# Altium schematic symbol library ParsaLibrary.SchLib: 419 symbols (part 1 of 3)
Pins are listed as number, name and electrical type; pins without a type are passive.

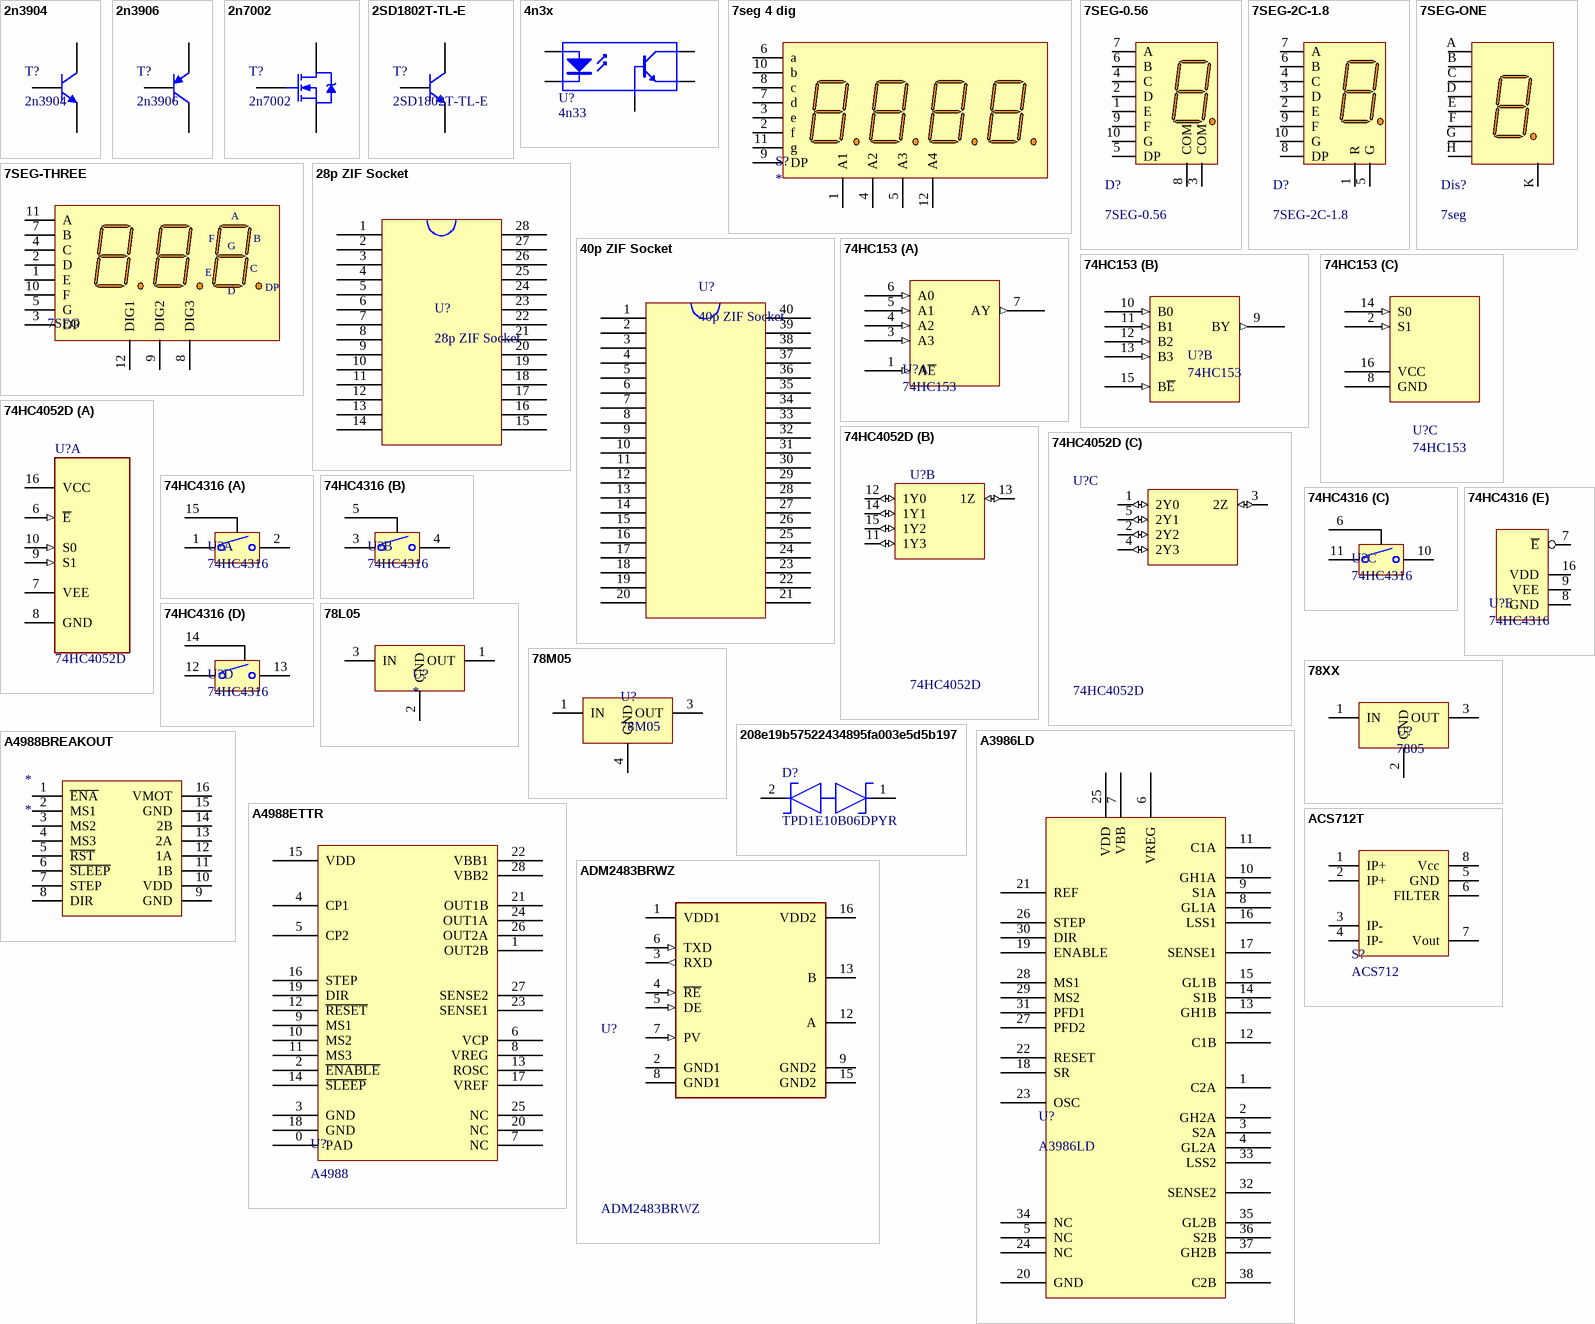
[diagram p0: symbols 2n3904 to ADM2483BRWZ]

## 2n3904
designator T?
Mark: 1A
footprint SOT-23-3 (SOT-23 3PIN)
pins: 1 C, 2 E, 3 B

## 2n3906
designator T?
Mark: 2A
footprint SOT-23-3 (SOT-23 3PIN)
pins: 1 C, 2 E, 3 B

## 2n7002
designator T?
footprint SOT-23-3 (SOT-23 3PIN)
pins: 1 D, 2 S, 3 G

## 2SD1802T-TL-E
designator T?
High-Current Switching  Applications; MANUFACTOR: SANYO Semiconductors
footprint TO-252
pins: 1 B, 3 E, 4 C

## 4n3x
designator U?, comment 4n33
Optocoupler, Photodarlington Output, High Gain, / With Base Connection
footprint SOP-6
pins: 1 A "Anode", 2 K "Cathode", 4 E "Emitter", 5 C "Collector", 6 B "Base"

## 7seg 4 dig
designator S?
footprint 7seg 4dig
pins: 1 A1 "Anode", 2 f "Cathode", 3 e "Cathode", 4 A2 "Anode", 5 A3 "Anode", 6 a "Cathode", 7 d "Cathode", 8 c "Cathode", 9 DP "Cathode", 10 b "Cathode", 11 g "Cathode", 12 A4 "Anode"

## 7SEG-0.56
designator D?
Desgner: Parsa Malekpour; blog: p-malekpour.blogfa.com; Email: malekpour.parsa@Gmail.com
footprint 7SEG-0.56-1
pins: 1 E, 2 D, 3 COM, 4 C, 5 DP, 6 B, 7 A, 8 COM, 9 F, 10 G

## 7SEG-2C-1.8
designator D?
Desgner: Parsa Malekpour; blog: p-malekpour.blogfa.com; Email: malekpour.parsa@Gmail.com
footprint 7SEG-1.8-SINGLE
pins: 1 R, 2 E, 3 D, 4 C, 5 G, 6 B, 7 A, 8 DP, 9 F, 10 G

## 7SEG-ONE
designator Dis?, comment 7seg
Desgner: Parsa Malekpour; blog: p-malekpour.blogfa.com; Email: malekpour.parsa@Gmail.com
footprint 7SEG-BIG-SINGLE (big 7segment)
pins: A, B, C, D, E, F, G, H, K

## 7SEG-THREE
designator 7SEG, comment TRIPLE  (value not drawn)
CL5361
footprint 7SEG-THREE
pins: 1 E "Cathode", 2 D "Cathode", 3 DP "Cathode", 4 C "Cathode", 5 G "Cathode", 7 B "Cathode", 8 DIG3 "Anode", 9 DIG2 "Anode", 10 F "Cathode", 11 A "Cathode", 12 DIG1 "Anode"

## 28p ZIF Socket
designator U?
40 Pin Zif Socket
footprint Dip40 (40pin Dip IC)
pins: 1, 2, 3, 4, 5, 6, 7, 8, 9, 10, 11, 12, 13, 14, 15, 16, 17, 18, 19, 20, 21, 22, 23, 24, 25, 26, 27, 28

## 40p ZIF Socket
designator U?
40 Pin Zif Socket
footprint Dip40 (40pin Dip IC)
pins: 1, 2, 3, 4, 5, 6, 7, 8, 9, 10, 11, 12, 13, 14, 15, 16, 17, 18, 19, 20, 21, 22, 23, 24, 25, 26, 27, 28, 29, 30, 31, 32, 33, 34, 35, 36, 37, 38, 39, 40

## 74HC153
designator U?
Dual 4-input multiplexer
footprint SOIC-16N
part A pins: 1 A~{E} (in), 3 A3 (in), 4 A2 (in), 5 A1 (in), 6 A0 (in), 7 AY (out)
part B pins: 9 BY (out), 10 B0 (in), 11 B1 (in), 12 B2 (in), 13 B3 (in), 15 B~{E} (in)
part C pins: 2 S1 (in), 8 GND, 14 S0 (in), 16 VCC

## 74HC4052D
designator U?
Dual 4-channel analog multiplexer/demultiplexer; MP: 74HC4052D/AUJ; MF: {'manufacturer': u'NXP USA'}; Availability: Unavailable; Price: None; Value: *; Package: None
footprint SOIC-16N
part A pins: 6 ~{E} (in), 7 VEE (power), 8 GND, 9 S1 (in), 10 S0 (in), 16 VCC (power)
part B pins: 11 1Y3 (io), 12 1Y0 (io), 13 1Z (io), 14 1Y1 (io), 15 1Y2 (io)
part C pins: 1 2Y0 (io), 2 2Y2 (io), 3 2Z (io), 4 2Y3 (io), 5 2Y1 (io)

## 74HC4316
designator U?
footprint SOIC-16N
part A pins: 1, 2, 15 1S
part B pins: 3 2Y, 4 2Z, 5 2S
part C pins: 6 3S, 10 3Z, 11 3Y
part D pins: 12 4Y, 13 4Z, 14 4S
part E pins: 7 ~{E}, 8 GND, 9 VEE, 16 VDD

## 78L05
designator U?
footprint TO-92
pins: 1 OUT, 2 GND, 3 IN

## 78M05
designator U?
footprint TO-252
pins: 1 IN, 3 OUT, 4 GND

## 78XX
designator U?, comment 7805
footprint TO-220
pins: 1 IN, 2 GND, 3 OUT

## 208e19b57522434895fa003e5d5b197
designator D?, comment TPD1E10B06DPYR
TVS DIODE 5.5V 14V 2X1SON; Leakage Current: 100nA; Min Breakdown Voltage: 6V; Number of Channels: 1; ESD Protection: Yes; Power Line Protection: No; Test Current: 1mA; Interface: GPIO; Element Configuration: Single; Peak Pulse Current: 5A; Direction: Bidirectional; Peak Pulse Power: 90W; Capacitance: 12pF; Composition: Zener; Packaging: Tape and Reel; Number of Pins: 2; Breakdown Voltage: 6V; Radiation Hardening: No; Min Operating Temperature: -40°C; Contact Plating: Gold; Lead Free: Lead Free; Height: 0.35mm; REACH SVHC: No SVHC; Case/Package: 0402; Max Operating Temperature: 125°C; Width: 0.7mm; Clamping Voltage: 14V; Package Quantity: 1; Max Reverse Leakage Current: 100nA; Working Voltage: 5.5V; Length: 1.1mm; Number of Bidirectional Channels: 1; Reverse Standoff Voltage: 5.5V
footprint FP-DPY0002A-MFG
pins: 1, 2

## A3986LD
designator U?
Dual Full-Bridge MOSFET Driver with Microstepping Translator
footprint tssop-38 (0.5mm Pitch)
pins: 1 C2A, 2 GH2A, 3 S2A, 4 GL2A, 5 NC, 6 VREG, 7 VBB, 8 GL1A, 9 S1A, 10 GH1A, 11 C1A, 12 C1B, 13 GH1B, 14 S1B, 15 GL1B, 16 LSS1, 17 SENSE1, 18 SR, 19 ENABLE, 20 GND, 21 REF, 22 RESET, 23 OSC, 24 NC, 25 VDD, 26 STEP, 27 PFD2, 28 MS1, 29 MS2, 30 DIR, 31 PFD1, 32 SENSE2, 33 LSS2, 34 NC, 35 GL2B, 36 S2B, 37 GH2B, 38 C2B

## A4988BREAKOUT
designator *
footprint A4988BREAKOUT
pins: 1 ~{ENA}, 2 MS1, 3 MS2, 4 MS3, 5 ~{RST}, 6 ~{SLEEP}, 7 STEP, 8 DIR, 9 GND, 10 VDD, 11 1B, 12 1A, 13 2A, 14 2B, 15 GND, 16 VMOT

## A4988ETTR
designator U?, comment A4988
DMOS Microstepping Driver with Translator  And Overcurrent Protection
footprint QFN-28
pins: 0 PAD, 1 OUT2B, 2 ~{ENABLE}, 3 GND, 4 CP1, 5 CP2, 6 VCP, 7 NC, 8 VREG, 9 MS1, 10 MS2, 11 MS3, 12 ~{RESET}, 13 ROSC, 14 ~{SLEEP}, 15 VDD, 16 STEP, 17 VREF, 18 GND, 19 DIR, 20 NC, 21 OUT1B, 22 VBB1, 23 SENSE1, 24 OUT1A, 25 NC, 26 OUT2A, 27 SENSE2, 28 VBB2

## ACS712T
designator S?, comment ACS712
Hall Effect-Based Linear Current Sensor; Designer: Parsa Malekpour; Blog: p-malekpour.blogfa.com
footprint SOIC-8N
pins: 1 IP+, 2 IP+, 3 IP-, 4 IP-, 5 GND, 6 FILTER, 7 Vout, 8 Vcc

## ADM2483BRWZ
designator U?
Dual-Channel Digital Isolators; MF: {'manufacturer': u'Analog Devices'}; MP: ADUM1201AR; Package: None; Price: None; Value: *; Availability: Unavailable
footprint SOIC-16W
pins: 1 VDD1 (power), 2 GND1, 3 RXD (out), 4 ~{RE} (in), 5 DE (in), 6 TXD (in), 7 PV (in), 8 GND1, 9 GND2, 12 A, 13 B, 15 GND2, 16 VDD2 (power)

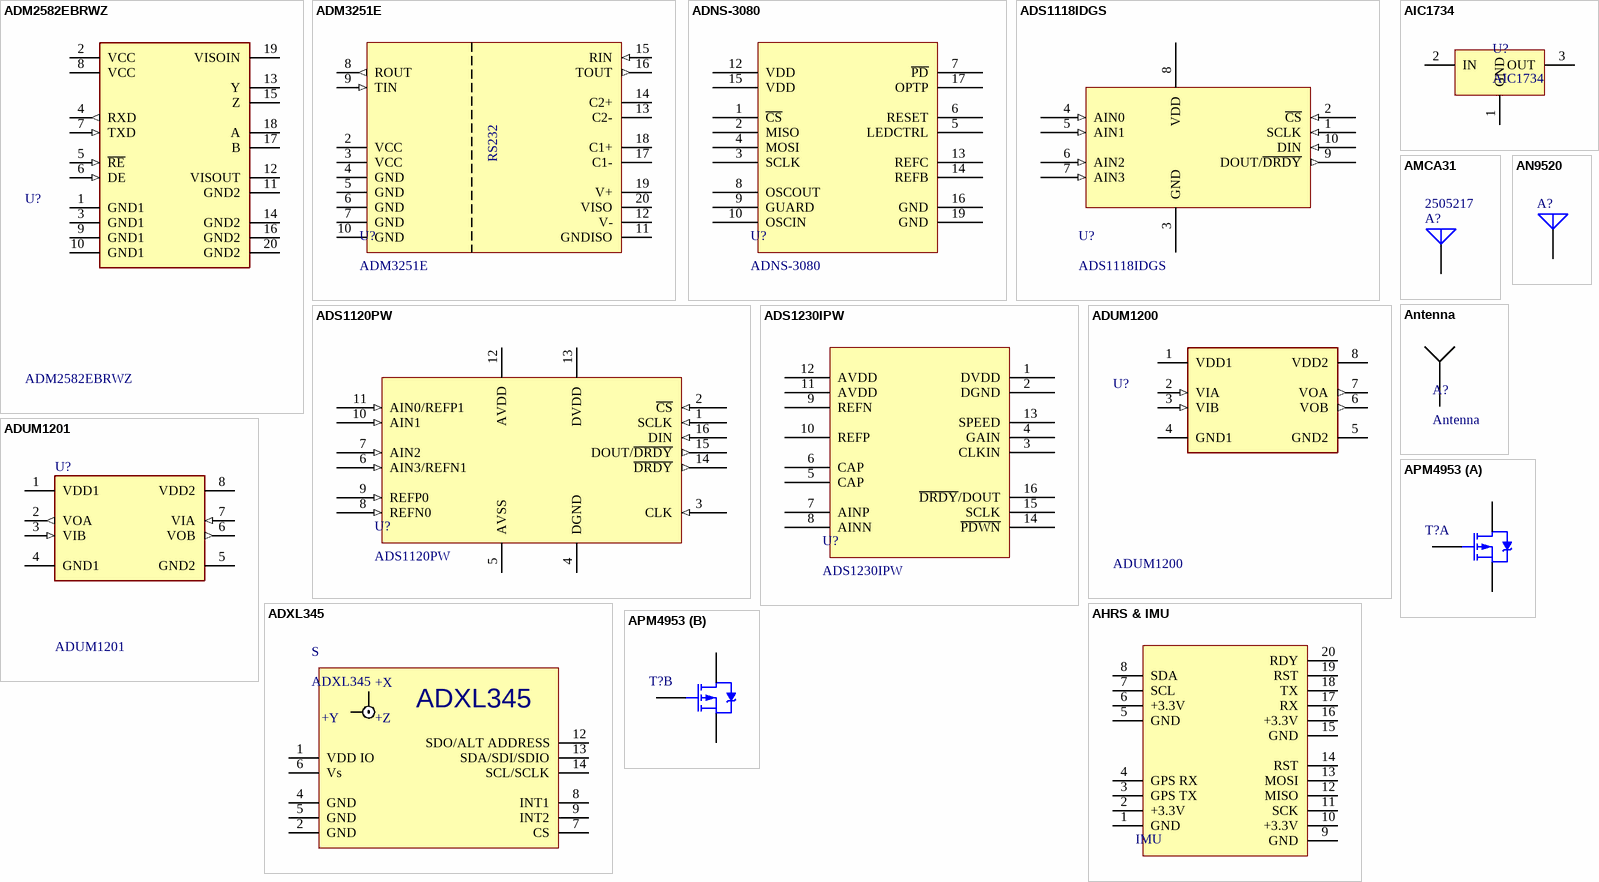
[diagram p1: symbols ADM2582EBRWZ to APM4953]

## ADM2582EBRWZ
designator U?
Dual-Channel Digital Isolators; MF: {'manufacturer': u'Analog Devices'}; MP: ADUM1201AR; Package: None; Price: None; Value: *; Availability: Unavailable
footprint SOIC-20W
pins: 1 GND1, 2 VCC (power), 3 GND1, 4 RXD (out), 5 ~{RE} (in), 6 DE (in), 7 TXD (in), 8 VCC (power), 9 GND1, 10 GND1, 11 GND2, 12 VISOUT, 13 Y, 14 GND2, 15 Z, 16 GND2, 17 B, 18 A, 19 VISOIN, 20 GND2

## ADM3251E
designator U?
Isolated, Single-Channel  RS-232 Line Driver/Receiver
footprint soic-20w
pins: 2 VCC (power), 3 VCC (power), 4 GND (power), 5 GND (power), 6 GND (power), 7 GND (power), 8 ROUT (out), 9 TIN (in), 10 GND (power), 11 GNDISO (power), 12 V- (power), 13 C2-, 14 C2+, 15 RIN (in), 16 TOUT (out), 17 C1-, 18 C1+, 19 V+ (power), 20 VISO (power)
text: RS232

## ADNS-3080
designator U?
footprint ADNS-3080
pins: 1 ~{CS}, 2 MISO, 3 SCLK, 4 MOSI, 5 LEDCTRL, 6 RESET, 7 ~{PD}, 8 OSCOUT, 9 GUARD, 10 OSCIN, 11 NC hidden, 12 VDD, 13 REFC, 14 REFB, 15 VDD, 16 GND, 17 OPTP, 18 NC hidden, 19 GND, 20 NC hidden

## ADS1118IDGS
designator U?
ADS1118 Ultrasmall, Low-Power, SPI™-Compatible, 16-Bit / Analog-to-Digital Converter with Internal Reference and Temperature Sensor
footprint VSSOP-10
pins: 1 SCLK (in), 2 ~{CS} (in), 3 GND (power), 4 AIN0 (in), 5 AIN1 (in), 6 AIN2 (in), 7 AIN3 (in), 8 VDD (power), 9 DOUT/~{DRDY} (out), 10 DIN (in)

## ADS1120PW
designator U?
ADS1120 4-Channel, 2-kSPS, Low-Power, 16-Bit ADC with Integrated PGA and Reference
footprint TSSOP-16
pins: 1 SCLK (in), 2 ~{CS} (in), 3 CLK (in), 4 DGND (power), 5 AVSS (power), 6 AIN3/REFN1 (in), 7 AIN2 (in), 8 REFN0 (in), 9 REFP0 (in), 10 AIN1 (in), 11 AIN0/REFP1 (in), 12 AVDD (power), 13 DVDD (power), 14 ~{DRDY} (out), 15 DOUT/~{DRDY} (out), 16 DIN (in)

## ADS1230IPW
designator U?
20-Bit Analog-to-Digital Converter / For Bridge Sensors
footprint TSSOP-16
pins: 1 DVDD, 2 DGND, 3 CLKIN, 4 GAIN, 5 CAP, 6 CAP, 7 AINP, 8 AINN, 9 REFN, 10 REFP, 11 AVDD, 12 AVDD, 13 SPEED, 14 ~{PDWN}, 15 SCLK, 16 ~{DRDY}/DOUT

## ADUM1200
designator U?
Dual-Channel Digital Isolators; MF: {'manufacturer': u'Analog Devices'}; MP: ADUM1201AR; Package: None; Price: None; Value: *; Availability: Unavailable
footprint soic-8n
pins: 1 VDD1 (power), 2 VIA (in), 3 VIB (in), 4 GND1, 5 GND2, 6 VOB (out), 7 VOA (out), 8 VDD2 (power)

## ADUM1201
designator U?
Dual-Channel Digital Isolators; MF: {'manufacturer': u'Analog Devices'}; MP: ADUM1201AR; Package: None; Price: None; Value: *; Availability: Unavailable
footprint soic-8n
pins: 1 VDD1 (power), 2 VOA (out), 3 VIB (in), 4 GND1, 5 GND2, 6 VOB (out), 7 VIA (in), 8 VDD2 (power)

## ADXL345
designator S
Digital Accelerometer; Designer: Parsa Malekpour
footprint CC-14-1
pins: 1 VDD IO, 2 GND, 4 GND, 5 GND, 6 Vs, 7 CS "Chip Select.", 8 INT1, 9 INT2, 12 SDO/ALT ADDRESS "Serial Data Output/Alternate I2C Address Select.", 13 SDA/SDI/SDIO "Serial Data (I2C)/Serial Data Input (SPI 4-Wire)/Serial Data Input and Output (SPI 3-Wire).", 14 SCL/SCLK "Serial Communications Clock."
text: +X; +Y; +Z

## AHRS & IMU
designator IMU, comment IMU  (value not drawn)
footprint AHRS
pins: 1 GND, 2 +3.3V, 3 GPS TX, 4 GPS RX, 5 GND, 6 +3.3V, 7 SCL, 8 SDA, 9 GND, 10 +3.3V, 11 SCK, 12 MISO, 13 MOSI, 14 RST, 15 GND, 16 +3.3V, 17 RX, 18 TX, 19 RST, 20 RDY

## AIC1734
designator U?
footprint SOT-89
pins: 1 GND, 2 IN, 3 OUT

## AMCA31
designator A?, comment Supplier Part Number 1: 2505217  (hidden comment: AMCA31-101-2R450G-S1F-T3)
WLAN/WIFI/BLUETOOTH COMPACT CHIP ANTENNA; Published: 24-Mar-1999; LatestRevisionDate: 17-Jul-2002; LatestRevisionNote: Re-released for DXP Platform.; PackageReference: PIN1; Publisher: Altium Limited; ComponentLink1Description: Mouser; ComponentLink1URL: https://www.mouser.com/ProductDetail/ABRACON/AMCA31-101-2R450G-S1F-T3?qs=sGAEpiMZZMug9GoBKXZ75zTd3QJRQ4n5vVcFiHK5nbeuHbTvtQS5Ww%3D%3D; Supplier 1: Rs
footprint AMCA31 (amd chip antenna)
pins: 1 A

## AN9520
designator A?  (value not drawn)
Multilayer Chip Antenna for / 2.4GHz Wireless Communication; Published: 24-Mar-1999; LatestRevisionDate: 17-Jul-2002; LatestRevisionNote: Re-released for DXP Platform.; PackageReference: PIN1; Publisher: Altium Limited
footprint AN9520
pins: 1 A

## Antenna
designator A?
footprint Inverted-F Antenna
pins: 1 RF

## APM4953
designator T?  (value not drawn)
Dual P-Channel Enhancement Mode Mosfet
footprint SOIC-8N
part A pins: 1 S, 2 G, 7 D, 8 D
part B pins: 3 S, 4 G, 5 D, 6 D

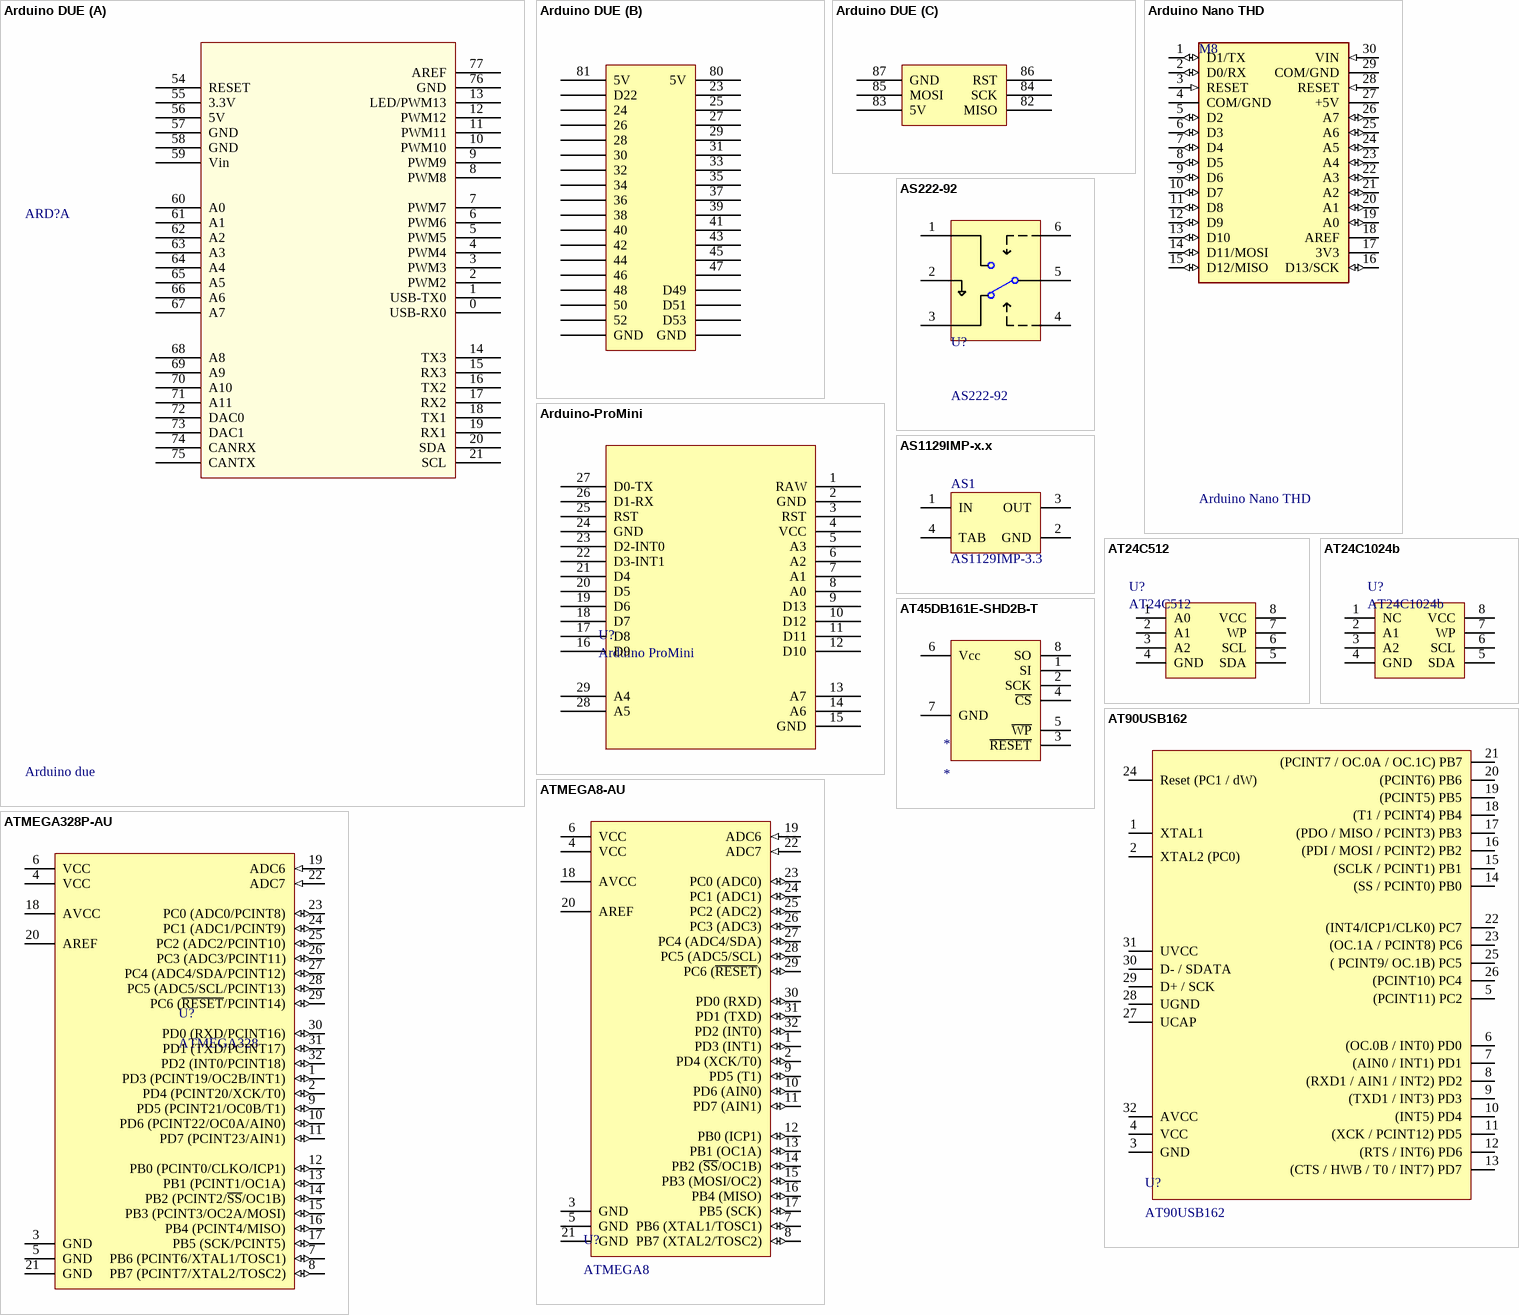
[diagram p2: symbols Arduino DUE to ATMEGA328P-AU]

## Arduino DUE
designator ARD?, comment Arduino due
footprint arduino-due
part A pins: 0 USB-RX0, 1 USB-TX0, 2 PWM2, 3 PWM3, 4 PWM4, 5 PWM5, 6 PWM6, 7 PWM7, 8 PWM8, 9 PWM9, 10 PWM10, 11 PWM11, 12 PWM12, 13 LED/PWM13, 14 TX3, 15 RX3, 16 TX2, 17 RX2, 18 TX1, 19 RX1, 20 SDA, 21 SCL, 54 RESET, 55 3.3V, 56 5V, 57 GND, 58 GND, 59 Vin, 60 A0, 61 A1, 62 A2, 63 A3, 64 A4, 65 A5, 66 A6, 67 A7, 68 A8, 69 A9, 70 A10, 71 A11, 72 DAC0, 73 DAC1, 74 CANRX, 75 CANTX, 76 GND, 77 AREF
part B pins: 22 D22, 23, 24, 25, 26, 27, 28, 29, 30, 31, 32, 33, 34, 35, 36, 37, 38, 39, 40, 41, 42, 43, 44, 45, 46, 47, 48, 49 D49, 50, 51 D51, 52, 53 D53, 78 GND, 79 GND, 80 5V, 81 5V
part C pins: 82 MISO, 83 5V, 84 SCK, 85 MOSI, 86 RST, 87 GND

## Arduino Nano THD
designator M8
ATSAMD21G18A Arduino Nano 33 IoT SAM D ARMÂ® CortexÂ®-M0+ MCU 32-Bit Embedded Evaluation Board
footprint ARDUINO NANO
pins: 1 D1/TX (io), 2 D0/RX (io), 3 RESET (in), 4 COM/GND (power), 5 D2 (io), 6 D3 (io), 7 D4 (io), 8 D5 (io), 9 D6 (io), 10 D7 (io), 11 D8 (io), 12 D9 (io), 13 D10 (io), 14 D11/MOSI (io), 15 D12/MISO (io), 16 D13/SCK (io), 17 3V3 (power), 18 AREF (power), 19 A0 (io), 20 A1 (io), 21 A2 (io), 22 A3 (io), 23 A4 (io), 24 A5 (io), 25 A6 (io), 26 A7 (io), 27 +5V (power), 28 RESET (in), 29 COM/GND (power), 30 VIN (in)

## Arduino-ProMini
designator U?, comment Arduino ProMini
footprint ARDUINO-PROMINI
pins: 1 RAW, 2 GND, 3 RST, 4 VCC, 5 A3, 6 A2, 7 A1, 8 A0, 9 D13, 10 D12, 11 D11, 12 D10, 13 A7, 14 A6, 15 GND, 16 D9, 17 D8, 18 D7, 19 D6, 20 D5, 21 D4, 22 D3-INT1, 23 D2-INT0, 24 GND, 25 RST, 26 D1-RX, 27 D0-TX, 28 A5, 29 A4

## AS222-92
designator U?
PHEMT GaAs IC SPDT Switch; Publisher: ATROPATE.COM
footprint SC-70-6
pins: 1 J3, 2 GND, 3 J2, 4 V1, 5 J1, 6 V2

## AS1129IMP-x.x
designator AS1, comment AS1129IMP-3.3
x.x Volt, 800mA Low-Dropout Linear Regulator, 4-pin SOT-223; PartNumber: LM1117IMP-3.3; Manufacturer: National Semiconductor; PackageTopMarking: XYTT*N05B; PowerWise: N; CompType: LDO IC; Published: 4-Dec-2008; DatasheetVersion: Apr-2006; PackageVersion: revB, Apr-2003; PackageReference: MP04A; Publisher: Altium Limited; PackageDescription: Molded SOT-223, 6.50 x 3.56 x 1.6mm Body, 4 Lead, 2.3mm Pitch; Supplier 1: Farnell; Supplier Part Number 1: 7614123; RoHS: N; PinCount: 4; Code_JEDEC: TO-261-AA; Code_IPC: SOT223-4; ComponentLink1Description: LM1117 Datasheet; ComponentLink1URL: http://www.national.com/ds/LM/LM1117.pdf; ComponentLink2Description: LM1117 Web Page; ComponentLink2URL: http://www.national.com/pf/LM/LM1117.html; ComponentLink3Description: MP04A Package Page; ComponentLink3URL: http://www.national.com/packaging/folders/mp04a.html
footprint SOT-223
footprint MP04A_L (SOT223, 4-Leads, Body 6.5x3.5mm, Pitch 2.3mm, Lead Span 7mm, IPC High Density)
footprint MP04A_M (SOT223, 4-Leads, Body 6.5x3.5mm, Pitch 2.3mm, Lead Span 7mm, IPC Low Density)
pins: 1 IN (power), 2 GND (power), 3 OUT (power), 4 TAB (power)

## AT24C512
designator U?
512B EEPROM
footprint DIP8 (Footprint not found)
3D model DIP8 (PCB3D Model)
footprint soic-8n
pins: 1 A0, 2 A1, 3 A2, 4 GND, 5 SDA, 6 SCL, 7 WP, 8 VCC

## AT24C1024b
designator U?
1028 byte serial EEPROM
footprint DIP8 (Footprint not found)
pins: 1 NC, 2 A1, 3 A2, 4 GND, 5 SDA, 6 SCL, 7 WP, 8 VCC

## AT45DB161E-SHD2B-T
designator *
pins: 1 SI, 2 SCK, 3 ~{RESET}, 4 ~{CS}, 5 ~{WP}, 6 Vcc, 7 GND, 8 SO

## AT90USB162
designator U?
AT90USB162 ATMEL MICRO; DESIGNER: PARSA MALEKPOUR
footprint 32A_N (Footprint not found)
pins: 1 XTAL1, 2 XTAL2 (PC0) , 3 GND, 4 VCC, 5 (PCINT11) PC2, 6 (OC.0B / INT0) PD0, 7 (AIN0 / INT1) PD1, 8 (RXD1 / AIN1 / INT2) PD2, 9 (TXD1 / INT3) PD3, 10 (INT5) PD4, 11 (XCK / PCINT12) PD5, 12 (RTS / INT6) PD6, 13 (CTS / HWB / T0 / INT7) PD7, 14 (SS / PCINT0) PB0, 15 (SCLK / PCINT1) PB1, 16 (PDI / MOSI / PCINT2) PB2, 17 (PDO / MISO / PCINT3) PB3, 18 (T1 / PCINT4) PB4, 19 (PCINT5) PB5, 20 (PCINT6) PB6, 21 (PCINT7 / OC.0A / OC.1C) PB7, 22 (INT4/ICP1/CLK0) PC7, 23 (OC.1A / PCINT8) PC6, 24 Reset (PC1 / dW), 25 ( PCINT9/ OC.1B) PC5, 26 (PCINT10) PC4, 27 UCAP, 28 UGND, 29 D+ / SCK, 30 D- / SDATA, 31 UVCC, 32 AVCC

## ATMEGA8-AU
designator U?, comment ATMEGA8
8-bit AVR Microcontroller, 8KB Flash, 512 Bytes EEPROM, 1KB SRAM, 32-pin TQFP, Industrial Grade (-40°C to 85°C)
footprint TQFP-32
pins: 1 PD3 (INT1) (io), 2 PD4 (XCK/T0) (io), 3 GND (power), 4 VCC (power), 5 GND (power), 6 VCC (power), 7 PB6 (XTAL1/TOSC1) (io), 8 PB7 (XTAL2/TOSC2) (io), 9 PD5 (T1) (io), 10 PD6 (AIN0) (io), 11 PD7 (AIN1) (io), 12 PB0 (ICP1) (io), 13 PB1 (OC1A) (io), 14 PB2 (~{SS}/OC1B) (io), 15 PB3 (MOSI/OC2) (io), 16 PB4 (MISO) (io), 17 PB5 (SCK) (io), 18 AVCC (power), 19 ADC6 (in), 20 AREF (power), 21 GND (power), 22 ADC7 (in), 23 PC0 (ADC0) (io), 24 PC1 (ADC1) (io), 25 PC2 (ADC2) (io), 26 PC3 (ADC3) (io), 27 PC4 (ADC4/SDA) (io), 28 PC5 (ADC5/SCL) (io), 29 PC6 (~{RESET}) (io), 30 PD0 (RXD) (io), 31 PD1 (TXD) (io), 32 PD2 (INT0) (io)

## ATMEGA328P-AU
designator U?, comment ATMEGA328
footprint TQFP-32
pins: 1 PD3 (PCINT19/OC2B/INT1) (io), 2 PD4 (PCINT20/XCK/T0) (io), 3 GND (power), 4 VCC (power), 5 GND (power), 6 VCC (power), 7 PB6 (PCINT6/XTAL1/TOSC1) (io), 8 PB7 (PCINT7/XTAL2/TOSC2) (io), 9 PD5 (PCINT21/OC0B/T1) (io), 10 PD6 (PCINT22/OC0A/AIN0) (io), 11 PD7 (PCINT23/AIN1) (io), 12 PB0 (PCINT0/CLKO/ICP1) (io), 13 PB1 (PCINT1/OC1A) (io), 14 PB2 (PCINT2/~{SS}/OC1B) (io), 15 PB3 (PCINT3/OC2A/MOSI) (io), 16 PB4 (PCINT4/MISO) (io), 17 PB5 (SCK/PCINT5) (io), 18 AVCC (power), 19 ADC6 (in), 20 AREF, 21 GND (power), 22 ADC7 (in), 23 PC0 (ADC0/PCINT8) (io), 24 PC1 (ADC1/PCINT9) (io), 25 PC2 (ADC2/PCINT10) (io), 26 PC3 (ADC3/PCINT11) (io), 27 PC4 (ADC4/SDA/PCINT12) (io), 28 PC5 (ADC5/SCL/PCINT13) (io), 29 PC6 (~{RESET}/PCINT14) (io), 30 PD0 (RXD/PCINT16) (io), 31 PD1 (TXD/PCINT17) (io), 32 PD2 (INT0/PCINT18) (io)

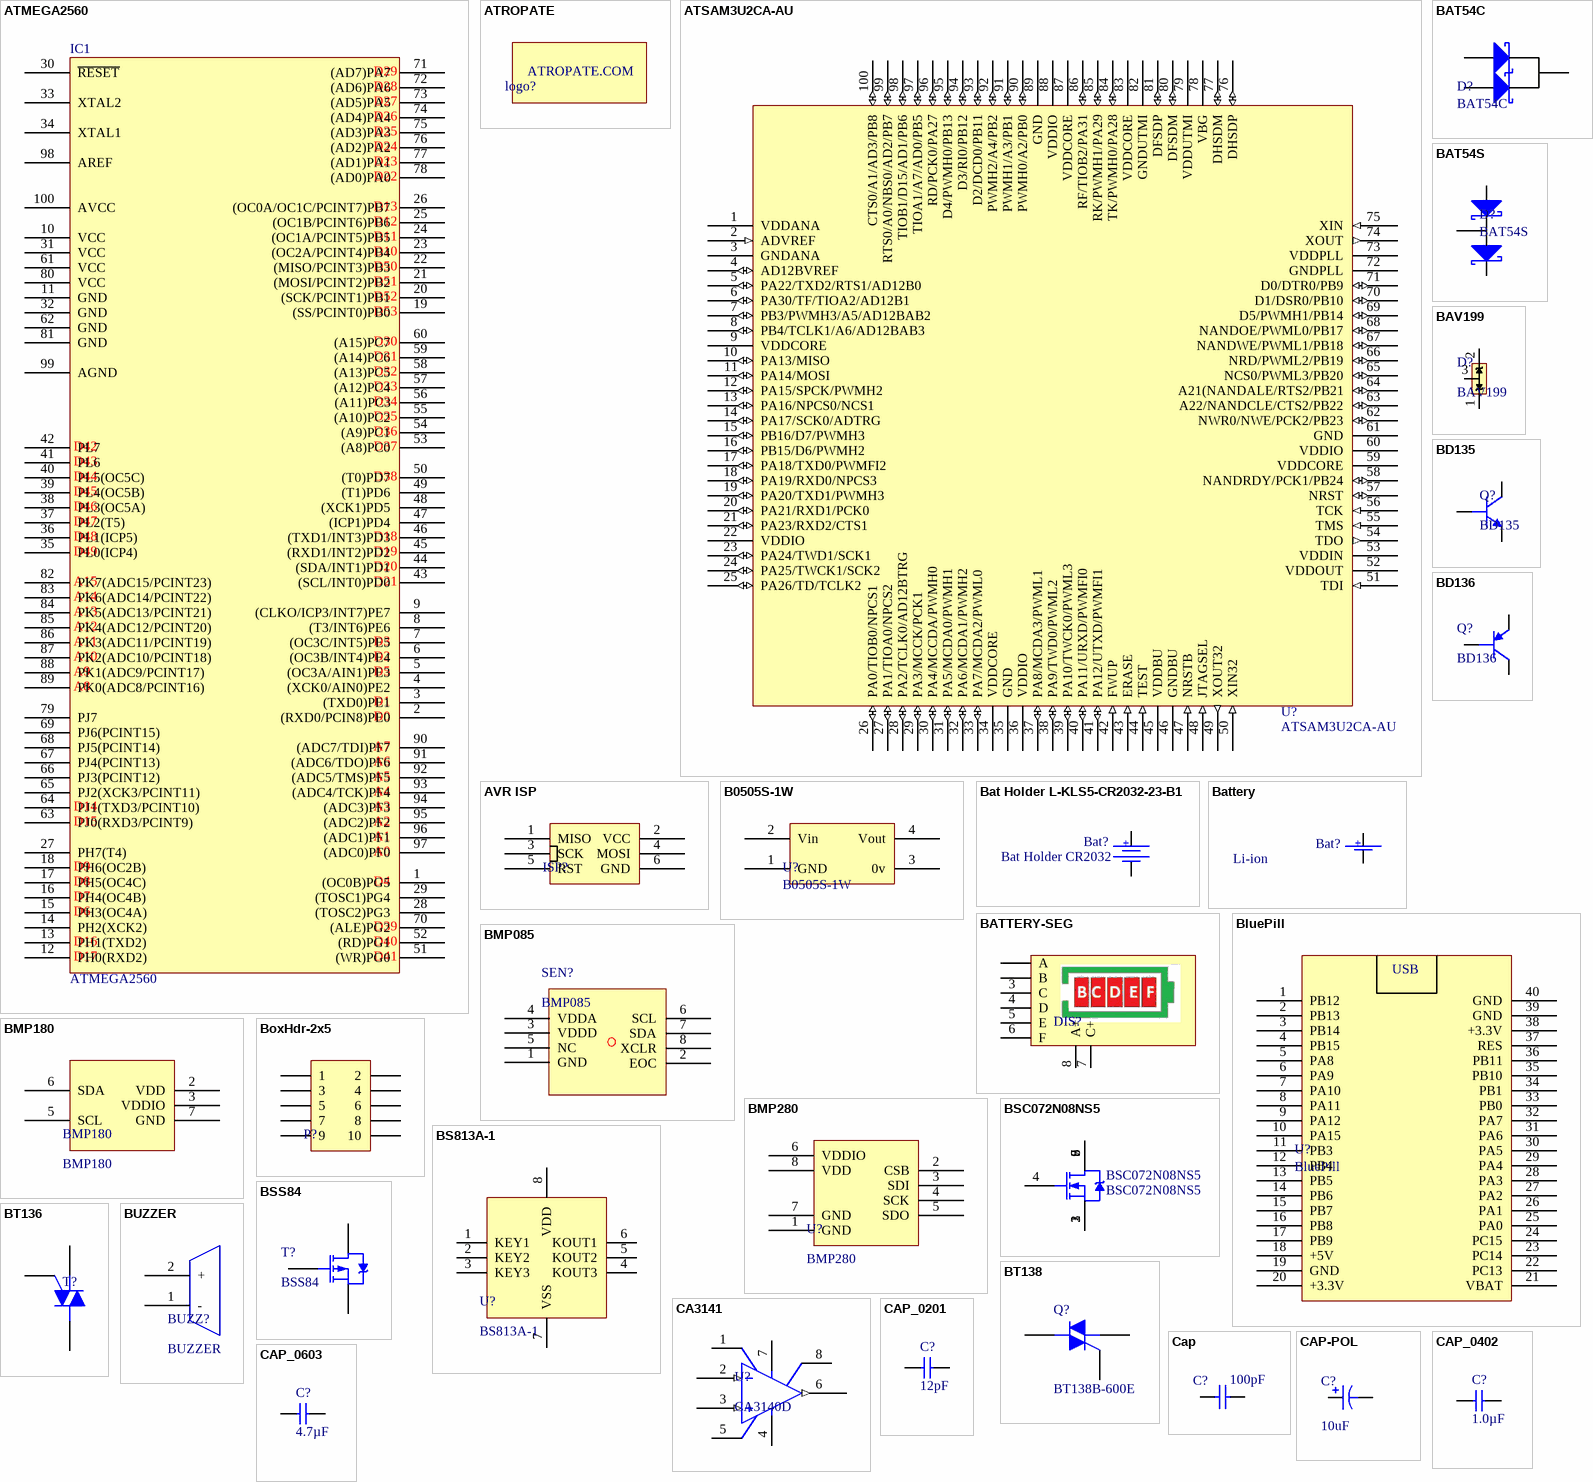
[diagram p3: symbols ATMEGA2560 to CAP_0603]

## ATMEGA2560
designator IC1
The high-performance, low-power Atmel 8-bit AVR RISC-based microcontroller
footprint TQFP-100
pins: 1 (OC0B)PG5, 2 (RXD0/PCIN8)PE0, 3 (TXD0)PE1, 4 (XCK0/AIN0)PE2, 5 (OC3A/AIN1)PE3, 6 (OC3B/INT4)PE4, 7 (OC3C/INT5)PE5, 8 (T3/INT6)PE6, 9 (CLKO/ICP3/INT7)PE7, 10 VCC, 11 GND, 12 PH0(RXD2), 13 PH1(TXD2), 14 PH2(XCK2), 15 PH3(OC4A), 16 PH4(OC4B), 17 PH5(OC4C), 18 PH6(OC2B), 19 (SS/PCINT0)PB0, 20 (SCK/PCINT1)PB1, 21 (MOSI/PCINT2)PB2, 22 (MISO/PCINT3)PB3, 23 (OC2A/PCINT4)PB4, 24 (OC1A/PCINT5)PB5, 25 (OC1B/PCINT6)PB6, 26 (OC0A/OC1C/PCINT7)PB7, 27 PH7(T4), 28 (TOSC2)PG3, 29 (TOSC1)PG4, 30 ~{RESET}, 31 VCC, 32 GND, 33 XTAL2, 34 XTAL1, 35 PL0(ICP4), 36 PL1(ICP5), 37 PL2(T5), 38 PL3(OC5A), 39 PL4(OC5B), 40 PL5(OC5C), 41 PL6, 42 PL7, 43 (SCL/INT0)PD0, 44 (SDA/INT1)PD1, 45 (RXD1/INT2)PD2, 46 (TXD1/INT3)PD3, 47 (ICP1)PD4, 48 (XCK1)PD5, 49 (T1)PD6, 50 (T0)PD7, 51 (WR)PG0, 52 (RD)PG1, 53 (A8)PC0, 54 (A9)PC1, 55 (A10)PC2, 56 (A11)PC3, 57 (A12)PC4, 58 (A13)PC5, 59 (A14)PC6, 60 (A15)PC7, 61 VCC, 62 GND, 63 PJ0(RXD3/PCINT9), 64 PJ1(TXD3/PCINT10), 65 PJ2(XCK3/PCINT11), 66 PJ3(PCINT12), 67 PJ4(PCINT13), 68 PJ5(PCINT14), 69 PJ6(PCINT15), 70 (ALE)PG2, 71 (AD7)PA7, 72 (AD6)PA6, 73 (AD5)PA5, 74 (AD4)PA4, 75 (AD3)PA3, 76 (AD2)PA2, 77 (AD1)PA1, 78 (AD0)PA0, 79 PJ7, 80 VCC, 81 GND, 82 PK7(ADC15/PCINT23), 83 PK6(ADC14/PCINT22), 84 PK5(ADC13/PCINT21), 85 PK4(ADC12/PCINT20), 86 PK3(ADC11/PCINT19), 87 PK2(ADC10/PCINT18), 88 PK1(ADC9/PCINT17), 89 PK0(ADC8/PCINT16), 90 (ADC7/TDI)PF7, 91 (ADC6/TDO)PF6, 92 (ADC5/TMS)PF5, 93 (ADC4/TCK)PF4, 94 (ADC3)PF3, 95 (ADC2)PF2, 96 (ADC1)PF1, 97 (ADC0)PF0, 98 AREF, 99 AGND, 100 AVCC
text: D29; D28; D27; D26; D25; D24; D23; D22; D13; D12; D11; D10; D50; D51; D52; D53; D30; D31; D32; D33; D34; D35; D36; D42; D37; D43; D44; D38; D45; D46; D47; D48; D18; D49; D19; D20; A15; D21; A14; A13; A12; A11; D3; A10; D2; A9; D5; A8; D1; D0; A7; A6; A5; A4; D14; A3; D15; A2; A1; A0; D9; D8; D4; D7; D6; D39; D16; D40; D17; D41

## ATROPATE
designator logo?  (value not drawn)
footprint LOGO
footprint LOGO-250
text: ATROPATE.COM

## ATSAM3U2CA-AU
designator U?
IC MCU 32bit 128kB flash 100LQFP; Manufacturer: Atmel; Part number IPS: 00000009985; Note: N.A.; Artikkelnr Noca: 15019073; Pad Count: 100; Part Number: ATSAM3U2CA-AU; Manufacturer Part Number: ATSAM3U2CA-AU; LatestRevisionDate: 2012-06-01; Published: 2012-06-01; Value: ATSAM3U2CA-AU; Footprint Doc: LQFP-100; ComponentLink1URL: N.A.; ComponentLink1Description: Datasheet; ComponentLink2URL: N.A.; ComponentLink2Description: Supplier link; HelpURL: http://www.atmel.com/Images/6430s.pdf; Supplier 1: Digi-Key; Supplier Part Number 1: ATSAM3U2CA-AU-ND; Supplier 2: Farnell; Supplier Part Number 2: 184-1662; Component Class: Misc_ICs; PartId: 101900036
footprint TSQFP50P1600X1600X160-100N
pins: 1 VDDANA (power), 2 ADVREF (in), 3 GNDANA (power), 4 AD12BVREF (io), 5 PA22/TXD2/RTS1/AD12B0 (io), 6 PA30/TF/TIOA2/AD12B1 (io), 7 PB3/PWMH3/A5/AD12BAB2 (io), 8 PB4/TCLK1/A6/AD12BAB3 (io), 9 VDDCORE (power), 10 PA13/MISO (io), 11 PA14/MOSI (io), 12 PA15/SPCK/PWMH2 (io), 13 PA16/NPCS0/NCS1 (io), 14 PA17/SCK0/ADTRG (io), 15 PB16/D7/PWMH3 (io), 16 PB15/D6/PWMH2 (io), 17 PA18/TXD0/PWMFI2 (io), 18 PA19/RXD0/NPCS3 (io), 19 PA20/TXD1/PWMH3 (io), 20 PA21/RXD1/PCK0 (io), 21 PA23/RXD2/CTS1 (io), 22 VDDIO (power), 23 PA24/TWD1/SCK1 (io), 24 PA25/TWCK1/SCK2 (io), 25 PA26/TD/TCLK2 (io), 26 PA0/TIOB0/NPCS1 (io), 27 PA1/TIOA0/NPCS2 (io), 28 PA2/TCLK0/AD12BTRG (io), 29 PA3/MCCK/PCK1 (io), 30 PA4/MCCDA/PWMH0 (io), 31 PA5/MCDA0/PWMH1 (io), 32 PA6/MCDA1/PWMH2 (io), 33 PA7/MCDA2/PWML0 (io), 34 VDDCORE (power), 35 GND (power), 36 VDDIO (power), 37 PA8/MCDA3/PWML1 (io), 38 PA9/TWD0/PWML2 (io), 39 PA10/TWCK0/PWML3 (io), 40 PA11/URXD/PWMFI0 (io), 41 PA12/UTXD/PWMFI1 (io), 42 FWUP (in), 43 ERASE (in), 44 TEST (in), 45 VDDBU (power), 46 GNDBU (power), 47 NRSTB (in), 48 JTAGSEL (in), 49 XOUT32 (out), 50 XIN32 (in), 51 TDI (in), 52 VDDOUT (power), 53 VDDIN (power), 54 TDO (out), 55 TMS (in), 56 TCK (in), 57 NRST (io), 58 NANDRDY/PCK1/PB24 (io), 59 VDDCORE (power), 60 VDDIO (power), 61 GND (power), 62 NWR0/NWE/PCK2/PB23 (io), 63 A22/NANDCLE/CTS2/PB22 (io), 64 A21(NANDALE/RTS2/PB21 (io), 65 NCS0/PWML3/PB20 (io), 66 NRD/PWML2/PB19 (io), 67 NANDWE/PWML1/PB18 (io), 68 NANDOE/PWML0/PB17 (io), 69 D5/PWMH1/PB14 (io), 70 D1/DSR0/PB10 (io), 71 D0/DTR0/PB9 (io), 72 GNDPLL (power), 73 VDDPLL (power), 74 XOUT (out), 75 XIN (in), 76 DHSDP (io), 77 DHSDM (io), 78 VBG (power), 79 VDDUTMI (power), 80 DFSDM (io), 81 DFSDP (io), 82 GNDUTMI (power), 83 VDDCORE (power), 84 TK/PWMH0/PA28 (io), 85 RK/PWMH1/PA29 (io), 86 RF/TIOB2/PA31 (io), 87 VDDCORE (power), 88 VDDIO (power), 89 GND (power), 90 PWMH0/A2/PB0 (io), 91 PWMH1/A3/PB1 (io), 92 PWMH2/A4/PB2 (io), 93 D2/DCD0/PB11 (io), 94 D3/RI0/PB12 (io), 95 D4/PWMH0/PB13 (io), 96 RD/PCK0/PA27 (io), 97 TIOA1/A7/AD0/PB5 (io), 98 TIOB1/D15/AD1/PB6 (io), 99 RTS0/A0/NBS0/AD2/PB7 (io), 100 CTS0/A1/AD3/PB8 (io)

## AVR ISP
designator ISP?  (value not drawn)
footprint phdr2x3
pins: 1 MISO, 2 VCC, 3 SCK, 4 MOSI, 5 RST, 6 GND

## B0505S-1W
designator U?
1W, FIXED INPUT ISOLATED & UNREGULATED / SINGLE OUTPUT DC-DC CONVERTER
footprint B_S-1W
pins: 1 GND, 2 Vin, 3 0v, 4 Vout

## BAT54C
designator D?
SURFACE MOUNT SCHOTTKY BARRIER DIODE
footprint SOT-23
pins: 1 A, 2 A, 3 K

## BAT54S
designator D?
SURFACE MOUNT SCHOTTKY BARRIER DIODE
footprint SOT-23
pins: 1 A, 2 A, 3 K

## Bat Holder L-KLS5-CR2032-23-B1
designator Bat?, comment Bat Holder CR2032
Bat Holder CR2032 SMD; Part Number: Bat Holder L-KLS5-CR2032-23-B1; Manufacturer: KLS Electronic; Manufacturer Part Number: L-KLS5-CR2032-23-B1; Artikkelnr Noca: N.A.; Pad Count: 2; Footprint Doc: CR2032_HOLDER; LatestRevisionDate: 2019-08-29; Published: 2019-08-28; Value: Bat Holder CR2032; Note: Bat Holder CR2032; Part number IPS: N.A.; ComponentLink1URL: http://www.klsele.com/admin/product_upload/20151124103736KLS5-CR2032-23-B.pdf; ComponentLink1Description: Datasheet; ComponentLink2URL: N.A.; ComponentLink2Description: Supplier link; HelpURL: http://www.klsele.com/products/connectors/Coin-Cell-Holders-Series/4685.html; Supplier 1: Cabcon; Supplier Part Number 1: L-KLS5-CR2032-23-B1; Supplier 2: Mouser; Supplier Part Number 2: 614-SMTU2032-LF; PartId: 100500651; Component Class: Connectors
footprint L-KLS5-CR2032-23-B1
pins: 1, 2
text: +

## Battery
designator Bat?, comment Li-ion
Bat Holder CR2032 SMD; Part Number: Bat Holder L-KLS5-CR2032-23-B1; Manufacturer: KLS Electronic; Manufacturer Part Number: L-KLS5-CR2032-23-B1; Artikkelnr Noca: N.A.; Pad Count: 2; Footprint Doc: CR2032_HOLDER; LatestRevisionDate: 2019-08-29; Published: 2019-08-28; Value: Bat Holder CR2032; Note: Bat Holder CR2032; Part number IPS: N.A.; ComponentLink1URL: http://www.klsele.com/admin/product_upload/20151124103736KLS5-CR2032-23-B.pdf; ComponentLink1Description: Datasheet; ComponentLink2URL: N.A.; ComponentLink2Description: Supplier link; HelpURL: http://www.klsele.com/products/connectors/Coin-Cell-Holders-Series/4685.html; PartId: 100500651; Component Class: Connectors
footprint ph-2
pins: 1, 2
text: +

## BATTERY-SEG
designator DIS?  (value not drawn)
footprint BATTERY-5SEG
pins: 1 A, 2 B, 3 C, 4 D, 5 E, 6 F, 7 C+, 8 A+

## BAV199
designator D?
footprint SOT-23
pins: 1 A1, 2 K2, 3 C

## BD135
designator Q?
BD135,BD137,BD139
footprint TO-126
pins: 1 E, 2 C, 3 B

## BD136
designator Q?
BD136,BD138,BD140
footprint TO-126
pins: 1 E, 2 C, 3 B

## BluePill
designator U?
footprint bluepill
pins: 1 PB12, 2 PB13, 3 PB14, 4 PB15, 5 PA8, 6 PA9, 7 PA10, 8 PA11, 9 PA12, 10 PA15, 11 PB3, 12 PB4, 13 PB5, 14 PB6, 15 PB7, 16 PB8, 17 PB9, 18 +5V, 19 GND, 20 +3.3V, 21 VBAT, 22 PC13, 23 PC14, 24 PC15, 25 PA0, 26 PA1, 27 PA2, 28 PA3, 29 PA4, 30 PA5, 31 PA6, 32 PA7, 33 PB0, 34 PB1, 35 PB10, 36 PB11, 37 RES, 38 +3.3V, 39 GND, 40 GND
text: USB

## BMP085
designator SEN?
Digital Pressure Sensor
footprint BMP085 (Digital pressure sensor)
pins: 1 GND, 2 EOC, 3 VDDD, 4 VDDA, 5 NC, 6 SCL, 7 SDA, 8 XCLR

## BMP180
designator BMP180
footprint BMP180
pins: 2 VDD, 3 VDDIO, 5 SCL, 6 SDA, 7 GND

## BMP280
designator U?
Digital Pressure Sensor
footprint BMP280
pins: 1 GND, 2 CSB, 3 SDI, 4 SCK, 5 SDO, 6 VDDIO, 7 GND, 8 VDD

## BoxHdr-2x5
designator P?, comment Box Header  (value not drawn)
footprint BoxHDR-2x5
pins: 1, 2, 3, 4, 5, 6, 7, 8, 9, 10

## BS813A-1
designator U?
Touch Key
footprint SOIC-8N
pins: 1 KEY1, 2 KEY2, 3 KEY3, 4 KOUT3, 5 KOUT2, 6 KOUT1, 7 VSS, 8 VDD

## BSC072N08NS5
designator BSC072N08NS5
Single N-Channel Logic Level PWM Optimized PowerTrenchTM MOSFET
footprint PG-TDSON-8 (SON, 8-Leads, Body 5.07x5.90mm, Pitch 1.27mm, Thermal Pad 4.15x3.87mm, IPC Medium Density)
pins: 1 S, 2 S, 3 S, 4 G, 5 D, 6 D, 7 D, 8 D, 9 D

## BSS84
designator T?
P-channel enhancement mode vertical DMOS transistor
footprint SOT-23
pins: 1 G, 2 S, 3 D

## BT136
designator T?  (value not drawn)
BT136 series TRIAC
footprint TO-220
footprint TO-220 Right
pins: 1 T1, 2 T2, 3 G

## BT138
designator Q?, comment BT138B-600E
4Q Triac; Publisher: ATROPATE
footprint SOT-404
simulation model MAC15A8 (Spice Subcircuit)
pins: 1 M1, 2 M2, 3 G

## BUZZER
designator BUZZ?
footprint BUZZER
pins: 1 -, 2 +

## CA3141
designator U?, comment CA3140D
4.5MHz, BiMOS Operational Amplifier with  MOSFET Input/Bipolar Output
footprint SOIC-8N
pins: 1 OFFSET  NULL, 2 INV. INPUT (in), 3 NON-INV. INPUT (in), 4 V-, 5 OFFSET  NULL, 6 OUTPUT (out), 7 V+, 8 STROBE 

## Cap
designator C?, comment 100pF
Capacitor; Designer: Parsa Malekpour; Value: 100pF
footprint CAP10
footprint C1206
footprint C805
pins: 1, 2

## CAP-POL
designator C?, comment 10uF
Polar Capacitor; Voltage: 10V; Value: 10uF
footprint cap-rad10 (10uf)
footprint CAP-SMD-6
footprint CAP-TAN-A (Chip Capacitor, 2-Leads, Body 3.2x1.6mm, IPC High Density, chip Tantalum)
footprint CAP-TAN-B
footprint cap-smd-10
pins: 1, 2

## CAP_0201
designator C?, comment 12pF
Capacitor, NP0, ±2%; Part Number: C0201-12p; LatestRevisionDate: 2017-11-09; Pin Count: 2; Publisher: Nordic Semiconductor; Published: 2014-11-13; Value: 12pF; Footprint Doc: 0201
footprint CAPC0603X03L_C
pins: 1, 2

## CAP_0402
designator C?, comment 1.0µF
Capacitor, X5R, ±5%; Part Number: C0402-1µ0; LatestRevisionDate: 2016-08-22; Pin Count: 2; Publisher: Nordic Semiconductor; Published: 2009-05-08; Value: 1.0µF; Footprint Doc: 0402
footprint CAPC1005X04L
pins: 1, 2

## CAP_0603
designator C?, comment 4.7µF
Capacitor, X7R, ±10%; Part Number: C0603-4µ7-6.3V-X7R; LatestRevisionDate: 2015-06-10; Pin Count: 2; Publisher: Nordic Semiconductor; Published: 2015-06-10; Value: 4.7µF; Footprint Doc: 0603
footprint CAPC1608X06L
pins: 1, 2

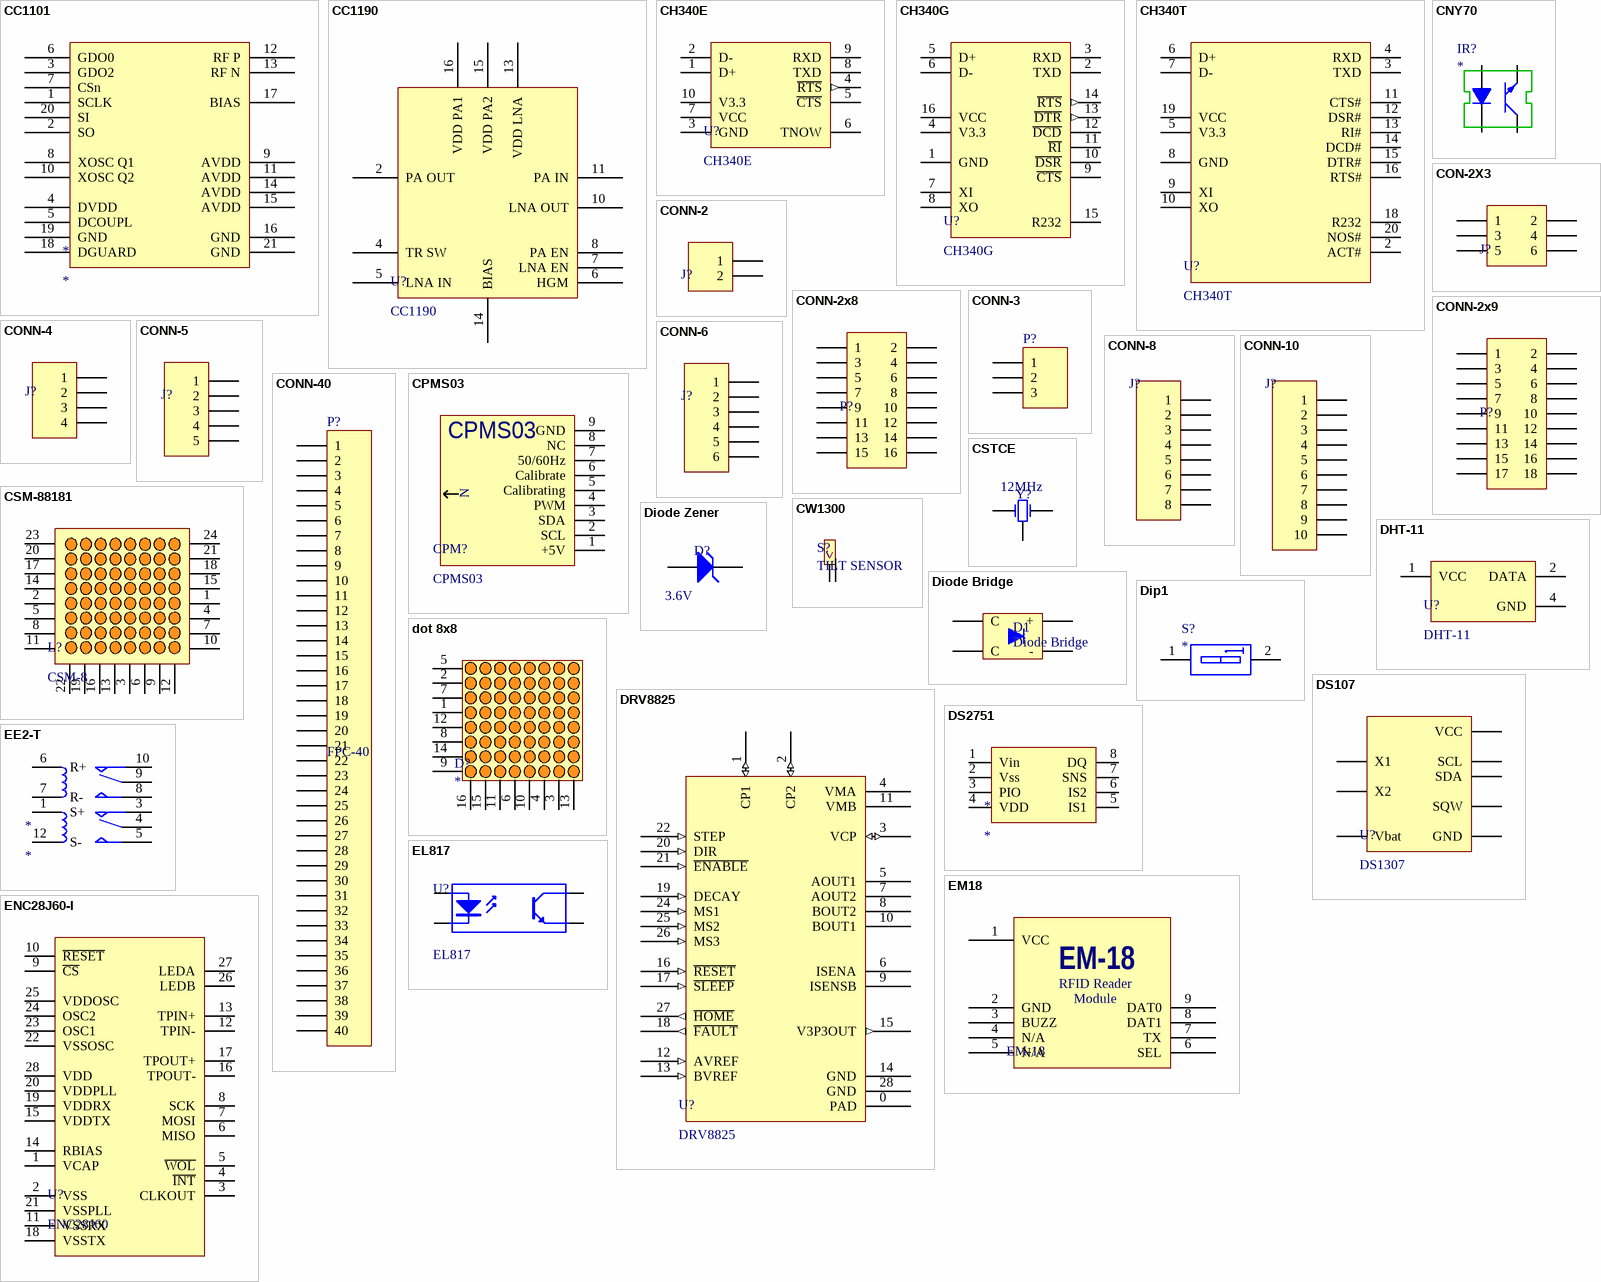
[diagram p4: symbols CC1101 to ENC28J60-I]

## CC1101
designator *
footprint QFN-20
pins: 1 SCLK, 2 SO, 3 GDO2, 4 DVDD, 5 DCOUPL, 6 GDO0, 7 CSn, 8 XOSC Q1, 9 AVDD, 10 XOSC Q2, 11 AVDD, 12 RF P, 13 RF N, 14 AVDD, 15 AVDD, 16 GND, 17 BIAS, 18 DGUARD, 19 GND, 20 SI, 21 GND

## CC1190
designator U?
footprint QFN-16
pins: 1 GND hidden to GND, 2 PA OUT, 3 GND hidden to GND, 4 TR SW, 5 LNA IN, 6 HGM, 7 LNA EN, 8 PA EN, 9 GND hidden to GND, 10 LNA OUT, 11 PA IN, 12 GND hidden to GND, 13 VDD LNA, 14 BIAS, 15 VDD PA2, 16 VDD PA1, 17 PAD hidden to GND

## CH340E
designator U?
CH340 Series USB Interface Integrated Circuit
footprint MSOP-10
pins: 1 D+, 2 D-, 3 GND, 4 ~{RTS} (out), 5 ~{CTS}, 6 TNOW, 7 VCC, 8 TXD, 9 RXD, 10 V3.3

## CH340G
designator U?
CH340 Series USB Interface Integrated Circuit
footprint SOIC-16N
pins: 1 GND, 2 TXD, 3 RXD, 4 V3.3, 5 D+, 6 D-, 7 XI, 8 XO, 9 ~{CTS}, 10 ~{DSR}, 11 ~{RI}, 12 ~{DCD}, 13 ~{DTR} (out), 14 ~{RTS} (out), 15 R232, 16 VCC

## CH340T
designator U?
USB Bus Convert Chip and It Can Realize USB Convert to Serial Interface
footprint SSOP-20n
pins: 1 CKO hidden, 2 ACT#, 3 TXD, 4 RXD, 5 V3.3, 6 D+, 7 D-, 8 GND, 9 XI, 10 XO, 11 CTS#, 12 DSR#, 13 RI#, 14 DCD#, 15 DTR#, 16 RTS#, 17 IR# hidden, 18 R232, 19 VCC, 20 NOS#

## CNY70
designator IR?
footprint CNY70
pins: A, C, E, K

## CON-2X3
designator J?  (value not drawn)
footprint PHDR2X3
pins: 1, 2, 3, 4, 5, 6

## CONN-2
designator J?  (value not drawn)
footprint XH-2
footprint CONN-2BIG
footprint CONN-2 RIGHT
pins: 1, 2

## CONN-2x8
designator P?, comment Box Header  (value not drawn)
footprint IDC-2x8-2MM
pins: 1, 2, 3, 4, 5, 6, 7, 8, 9, 10, 11, 12, 13, 14, 15, 16

## CONN-2x9
designator P?
footprint PHB2.0-2X9
pins: 1, 2, 3, 4, 5, 6, 7, 8, 9, 10, 11, 12, 13, 14, 15, 16, 17, 18

## CONN-3
designator P?
Header, 3-Pin
footprint XH-3
footprint PH-3
footprint PHDR3
footprint xh-3
pins: 1, 2, 3

## CONN-4
designator J?  (value not drawn)
footprint XH-4
footprint PHDR4
pins: 1, 2, 3, 4

## CONN-5
designator J?  (value not drawn)
footprint PHDR5
footprint XH-5
footprint PH-5
pins: 1, 2, 3, 4, 5

## CONN-6
designator J?  (value not drawn)
footprint PHDR6
footprint PH-6
footprint XH-6
pins: 1, 2, 3, 4, 5, 6

## CONN-8
designator J?  (value not drawn)
footprint PHDR8
footprint PH-8 (Footprint not found)
footprint XH-8
footprint KF25-8
pins: 1, 2, 3, 4, 5, 6, 7, 8

## CONN-10
designator J?  (value not drawn)
footprint FPC-10-0.5
pins: 1, 2, 3, 4, 5, 6, 7, 8, 9, 10

## CONN-40
designator P?, comment FPC-40
footprint FPC-40
signal-integrity model Connector
pins: 1, 2, 3, 4, 5, 6, 7, 8, 9, 10, 11, 12, 13, 14, 15, 16, 17, 18, 19, 20, 21, 22, 23, 24, 25, 26, 27, 28, 29, 30, 31, 32, 33, 34, 35, 36, 37, 38, 39, 40

## CPMS03
designator CPM?
Compass
footprint CPMS03
pins: 1 +5V, 2 SCL, 3 SDA, 4 PWM, 5 Calibrating, 6 Calibrate, 7 50/60Hz, 8 NC, 9 GND
text: N

## CSM-88181
designator L?, comment CSM-8
Dot Matrix
footprint csm-88181
pins: 1 5b "Cathode", 2 5a "Cathode", 3 5 "Anode", 4 6b "Cathode", 5 6a "Cathode", 6 "Anode", 7 7b "Cathode", 8 7a "Cathode", 9 7 "Anode", 10 8b "Cathode", 11 8a "Cathode", 12 8 "Anode", 13 4 "Anode", 14 4a "Cathode", 15 4b "Cathode", 16 3 "Anode", 17 3a "Cathode", 18 3b "Cathode", 19 2 "Anode", 20 2a "Cathode", 21 2b "Cathode", 22 1 "Anode", 23 1a "Cathode", 24 1b "Cathode"

## CSTCE
designator Y?, comment 12MHz
Resonator; Designer: Parsa Malekpour; Email: Malekpour.parsa@Gmail.com; Value: 12MHz
footprint CSTCE
pins: 1 OSC1, 2 GND, 3 OSC2

## CW1300
designator S?, comment TILT SENSOR
footprint CW1300
pins: 1, 2

## DHT-11
designator U?
footprint DHT11-R
pins: 1 VCC, 2 DATA, 4 GND

## Diode Bridge
designator D1
Full Wave Diode Bridge; Company: E.P.I.L; Design Date: 2011/11/02
footprint Bridge-1 (DIODE BRIDGE)
footprint Bridge-2
pins: 1 +, 2 C, 3 -, 4 C

## Diode Zener
designator D?, comment Voltage: 3.6V  (hidden comment: Zener)
footprint diode-SMD
pins: 1 A, 2 K

## Dip1
designator S?
footprint dip 1
pins: 1 A1, 2 B1

## dot 8x8
designator D?
footprint DOT MATRIS
pins: 1 R4 "Cathode", 2 R2 "Cathode", 3 C7 "Anode", 4 C6 "Anode", 5 R1 "Cathode", 6 C4 "Anode", 7 R3 "Cathode", 8 R6 "Cathode", 9 R8 "Cathode", 10 C5 "Anode", 11 C3 "Anode", 12 R5 "Cathode", 13 C8 "Anode", 14 R7 "Cathode", 15 C2 "Anode", 16 C1 "Anode"

## DRV8825
designator U?
DRV8825 Stepper Motor Controller IC
footprint HTSSOP-28
pins: 0 PAD, 1 CP1 (io), 2 CP2 (io), 3 VCP (io), 4 VMA, 5 AOUT1, 6 ISENA, 7 AOUT2, 8 BOUT2, 9 ISENSB, 10 BOUT1, 11 VMB, 12 AVREF (in), 13 BVREF (in), 14 GND, 15 V3P3OUT (out), 16 ~{RESET} (in), 17 ~{SLEEP} (in), 18 ~{FAULT} (out), 19 DECAY (in), 20 DIR (in), 21 ~{ENABLE} (in), 22 STEP (in), 24 MS1 (in), 25 MS2 (in), 26 MS3 (in), 27 ~{HOME} (out), 28 GND

## DS107
designator U?, comment DS1307
footprint SOIC-8N
pins: 1 X1, 2 X2, 3 Vbat, 4 GND, 5 SDA, 6 SCL, 7 SQW, 8 VCC

## DS2751
designator *
pins: 1 Vin, 2 Vss, 3 PIO, 4 VDD, 5 IS1, 6 IS2, 7 SNS, 8 DQ

## EE2-T
designator *
pins: 1 S+, 3 NC, 4 COM, 5 NO, 6 R+, 7 R-, 8 NO, 9 COM, 10 NC, 12 S-

## EL817
designator U?
4-Pin Phototransistor Optocoupler; Publisher: AtroTech
footprint SOIC-4-BIG
pins: 1 A "Anode", 2 K "Cathode", 3 E "Emitter", 4 C "Collector"

## EM18
designator EM-18, comment EM-18  (value not drawn)
EM-18 RFID Reader; DESIGNER: PARSA MALEKPOUR; EMAIL: MALEKPOUR.PARSA@GMAIL.COM
footprint EM-18 (RFID Reader Module)
pins: 1 VCC, 2 GND, 3 BUZZ, 4 N/A, 5 N/A, 6 SEL, 7 TX, 8 DAT1, 9 DAT0
text: RFID Reader; Module

## ENC28J60-I
designator U?, comment ENC28J60
Stand-Alone Ethernet Controller  with SPI Interface
footprint SOIC-28N
pins: 1 VCAP, 2 VSS, 3 CLKOUT, 4 ~{INT}, 5 ~{WOL}, 6 MISO, 7 MOSI, 8 SCK, 9 ~{CS}, 10 ~{RESET}, 11 VSSRX, 12 TPIN-, 13 TPIN+, 14 RBIAS, 15 VDDTX, 16 TPOUT-, 17 TPOUT+, 18 VSSTX, 19 VDDRX, 20 VDDPLL, 21 VSSPLL, 22 VSSOSC, 23 OSC1, 24 OSC2, 25 VDDOSC, 26 LEDB, 27 LEDA, 28 VDD

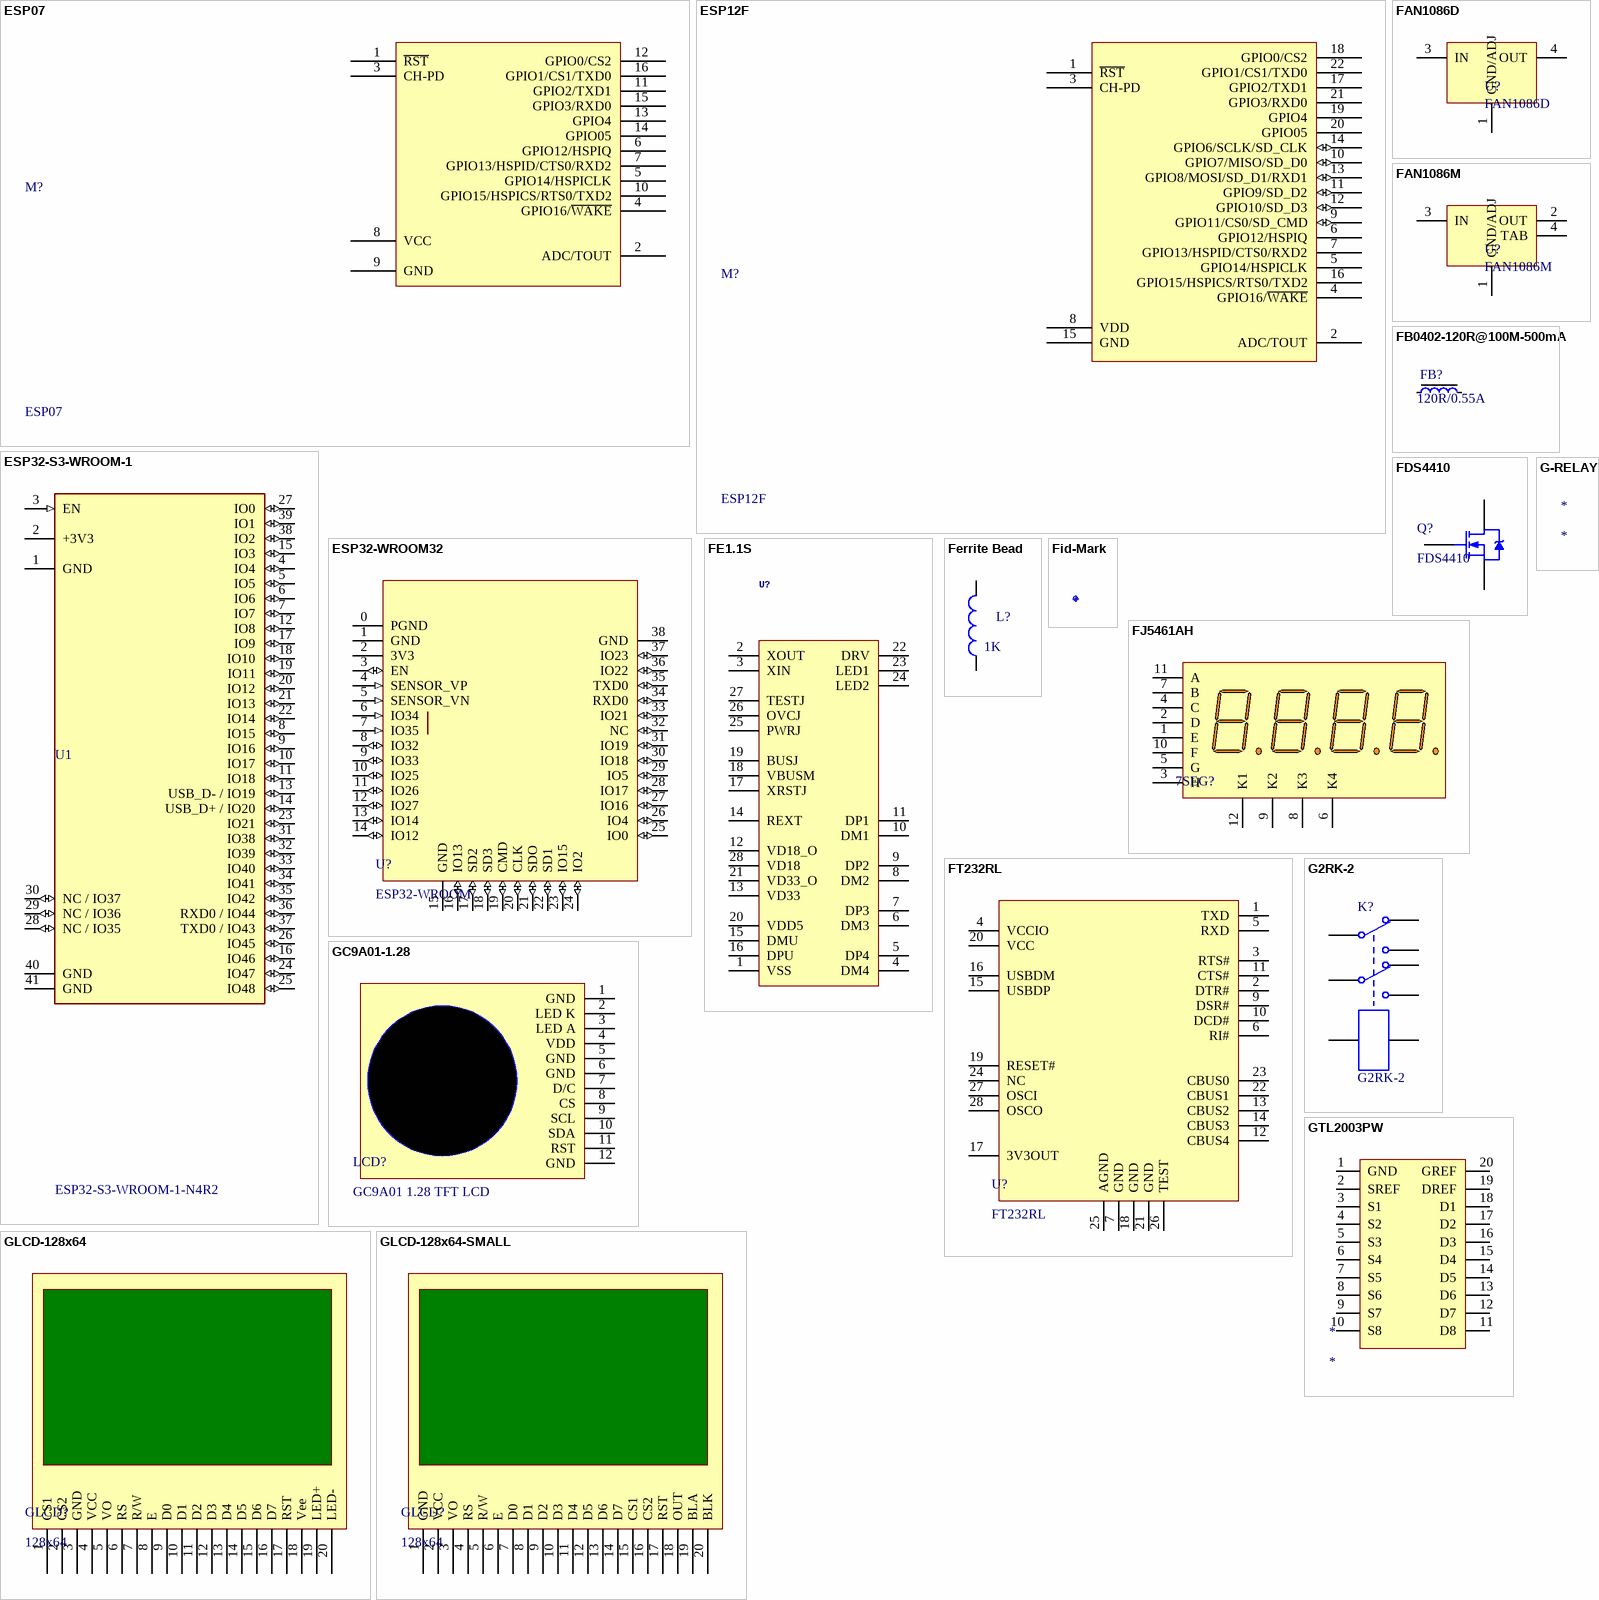
[diagram p5: symbols ESP07 to GTL2003PW]

## ESP07
designator M?
footprint ESP-07s
footprint esp07
pins: 1 ~{RST} "Reset", 2 ADC/TOUT "ADC Input Or TOUT Output", 3 CH-PD "Chip enable", 4 GPIO16/~{WAKE} "GPIO16 or Deep-Sleep Wakeup", 5 GPIO14/HSPICLK "GPIO14 or SPI CLK", 6 GPIO12/HSPIQ "GPIO12 or SPIQ", 7 GPIO13/HSPID/CTS0/RXD2 "GPIO13 or SPID", 8 VCC "Power supply", 9 GND "Power ground", 10 GPIO15/HSPICS/RTS0/TXD2 "GPIO15 or SPICS", 11 GPIO2/TXD1 "GPIO2 or TX", 12 GPIO0/CS2 "GPIO0 or SPICS2", 13 GPIO4 "GPIO5", 14 GPIO05 "GPIO4", 15 GPIO3/RXD0 "GPIO3 or UART RXD", 16 GPIO1/CS1/TXD0 "GPIO1 or UART TXD"

## ESP12F
designator M?
footprint ESP12F
pins: 1 ~{RST} "Reset", 2 ADC/TOUT "ADC Input Or TOUT Output", 3 CH-PD "Chip enable", 4 GPIO16/~{WAKE} "GPIO16 or Deep-Sleep Wakeup", 5 GPIO14/HSPICLK "GPIO14 or SPI CLK", 6 GPIO12/HSPIQ "GPIO12 or SPIQ", 7 GPIO13/HSPID/CTS0/RXD2 "GPIO13 or SPID", 8 VDD "Power supply", 9 GPIO11/CS0/SD_CMD (io) "Power supply", 10 GPIO7/MISO/SD_D0 (io) "Power supply", 11 GPIO9/SD_D2 (io) "Power supply", 12 GPIO10/SD_D3 (io) "Power supply", 13 GPIO8/MOSI/SD_D1/RXD1 (io) "Power supply", 14 GPIO6/SCLK/SD_CLK (io) "Power supply", 15 GND "Power ground", 16 GPIO15/HSPICS/RTS0/TXD2 "GPIO15 or SPICS", 17 GPIO2/TXD1 "GPIO2 or TX", 18 GPIO0/CS2 "GPIO0 or SPICS2", 19 GPIO4 "GPIO5", 20 GPIO05 "GPIO4", 21 GPIO3/RXD0 "GPIO3 or UART RXD", 22 GPIO1/CS1/TXD0 "GPIO1 or UART TXD"

## ESP32-S3-WROOM-1
designator U1, comment ESP32-S3-WROOM-1-N4R2
Multiprotocol Modules SMD Module, ESP32-S3R8, 3.3V, 8 MB Octal PSRAM Die, 16 MB Quad SPI Flash, PCB Antenna; MPN: ESP32-S3-WROOM-1-N16R2; MF: Espressif Systems; Supplier Link: https://www.digikey.com/en/products/detail/espressif-systems/ESP32-S3-WROOM-1-N16R2/16162644; Package: Module Espressif Systems; Value: *; Digi-Key_Part_Number: 1965-ESP32-S3-WROOM-1-N16R2TR-ND; Check_prices: https://www.snapeda.com/parts/ESP32-WROOM-32/Espressif+Systems/view-part/?ref=eda; SnapEDA_Link: https://www.snapeda.com/parts/ESP32-WROOM-32/Espressif+Systems/view-part/?ref=snap; Price: 3.98; Supplier: Digikey
footprint ESP32-S3-WROOM-1
pins: 1 GND (power), 2 +3V3 (power), 3 EN (in), 4 IO4 (io), 5 IO5 (io), 6 IO6 (io), 7 IO7 (io), 8 IO15 (io), 9 IO16 (io), 10 IO17 (io), 11 IO18 (io), 12 IO8 (io), 13 USB_D- / IO19 (io), 14 USB_D+ / IO20 (io), 15 IO3 (io), 16 IO46 (io), 17 IO9 (io), 18 IO10 (io), 19 IO11 (io), 20 IO12 (io), 21 IO13 (io), 22 IO14 (io), 23 IO21 (io), 24 IO47 (io), 25 IO48 (io), 26 IO45 (io), 27 IO0 (io), 28 NC / IO35 (io), 29 NC / IO36 (io), 30 NC / IO37 (io), 31 IO38 (io), 32 IO39 (io), 33 IO40 (io), 34 IO41 (io), 35 IO42 (io), 36 RXD0 / IO44 (io), 37 TXD0 / IO43 (io), 38 IO2 (io), 39 IO1 (io), 40 GND (power), 41 GND (power)

## ESP32-WROOM32
designator U?, comment ESP32-WROOM
footprint ESP32-WROOM32
pins: 0 PGND (power), 1 GND (power), 2 3V3 (power), 3 EN (io), 4 SENSOR_VP (in), 5 SENSOR_VN (in), 6 IO34 (in), 7 IO35 (in), 8 IO32 (io), 9 IO33 (io), 10 IO25 (io), 11 IO26 (io), 12 IO27 (io), 13 IO14 (io), 14 IO12 (io), 15 GND (power), 16 IO13 (io), 17 SD2 (io), 18 SD3 (io), 19 CMD (io), 20 CLK (io), 21 SDO (io), 22 SD1 (io), 23 IO15 (io), 24 IO2 (io), 25 IO0 (io), 26 IO4 (io), 27 IO16 (io), 28 IO17 (io), 29 IO5 (io), 30 IO18 (io), 31 IO19 (io), 32 NC (io), 33 IO21 (io), 34 RXD0 (io), 35 TXD0 (io), 36 IO22 (io), 37 IO23 (io), 38 GND (power)

## FAN1086D
designator U?
1.5A Adjustable/Fixed Low Dropout Linear Regulator
footprint DPAK
pins: 1 GND/ADJ, 3 IN, 4 OUT

## FAN1086M
designator U?
1.5A Adjustable/Fixed Low Dropout Linear Regulator
footprint D2PAK-3 (TO-263  3-Lead Middle Pin Long)
pins: 1 GND/ADJ, 2 OUT, 3 IN, 4 TAB

## FB0402-120R@100M-500mA
designator FB?, comment 120R/0.55A
Ferrite Bead, 120 Ohm @ 100MHz, 500mA, 250 mOhm Max; Part Number: FB0402-120R@100M-500mA; Manufacturer: Murata; Manufacturer Part Number: BLM15AG121SN1D; Part number IPS: 00000009954; Note: Chip EMIFIL Inductor Type Chip Ferrite Bead; Artikkelnr Noca: 33029317; Pad Count: 2; Footprint Doc: 0402; LatestRevisionDate: 2014-01-10; Published: 2011-11-14; Value: 120R/0.55A; ComponentLink1Description: Datasheet; ComponentLink2Description: Supplier link; ComponentLink1URL: N.A.; ComponentLink2URL: N.A.; HelpURL: http://search.murata.co.jp/Ceramy/image/img/PDF/ENG/L0110S0100BLM15A_SN.pdf; Supplier 1: Digi-Key; Supplier Part Number 1: 490-1005-1-ND; Supplier 2: Farnell; Supplier Part Number 2: 151-5760; Component Class: Inductors; PartId: 100300099
footprint INDC1005X04L
pins: 1, 2

## FDS4410
designator Q?
Single N-Channel Logic Level PWM Optimized PowerTrenchTM MOSFET
footprint SOIC-8N
pins: 1 S, 2 S, 3 S, 4 G, 5 D, 6 D, 7 D, 8 D

## FE1.1S
designator U?  (value not drawn)
USB 2.0 HIGH SPEED 4-PORT HUB CONTROLLER; GateName_1: G$1; SymbolName_1: FE1.1S; LibraryName: Ai_IC; DeviceSetName: FE1.1S
footprint SSOP-28N
pins: 1 VSS, 2 XOUT, 3 XIN, 4 DM4, 5 DP4, 6 DM3, 7 DP3, 8 DM2, 9 DP2, 10 DM1, 11 DP1, 12 VD18_O, 13 VD33, 14 REXT, 15 DMU, 16 DPU, 17 XRSTJ, 18 VBUSM, 19 BUSJ, 20 VDD5, 21 VD33_O, 22 DRV, 23 LED1, 24 LED2, 25 PWRJ, 26 OVCJ, 27 TESTJ, 28 VD18

## Ferrite Bead
designator L?, comment 1K
FERRITE BEAD; Code_IEC: 1005; Published: 8-Jun-2000; LatestRevisionDate: 29-May-2009; LatestRevisionNote: IPC-7351 Footprint Added.; Publisher: Altium Limited; PackageDescription: Chip Inductor; Code_JEITA: 0402; Value: 1K
footprint r805
footprint r0603
footprint r1206
pins: 1, 2

## Fid-Mark
designator Fid?, comment Fiducial mark  (value not drawn)
Part Number: Fid-Mark; Manufacturer: N.A.; Value: N.A.; Pad Count: 1; Manufacturer Part Number: N.A.; LatestRevisionDate: 2009-12-12; Published: 2009-12-12; Note: N.A.; Artikkelnr Noca: N.A.; Footprint Doc: Fiducial; Part number IPS: N.A.; ComponentLink1URL: N.A.; ComponentLink1Description: Datasheet; ComponentLink2URL: N.A.; ComponentLink2Description: Supplier link; HelpURL: N.A.; Supplier 1: N.A.; Supplier Part Number 1: N.A.; Supplier 2: N.A.; Supplier Part Number 2: N.A.; Component Class: Connectors; PartId: 100500073
footprint Fiducial

## FJ5461AH
designator 7SEG?  (value not drawn)
4 Digit Common Cathode LED Display
footprint 7 SEG 4DIG-1
pins: 1 E "Cathode", 2 D "Cathode", 3 H "Cathode", 4 C "Cathode", 5 G "Cathode", 6 K4 "Anode", 7 B "Cathode", 8 K3 "Anode", 9 K2 "Anode", 10 F "Cathode", 11 A "Cathode", 12 K1 "Anode"

## FT232RL
designator U?
footprint SSOP-28N
pins: 1 TXD, 2 DTR#, 3 RTS#, 4 VCCIO, 5 RXD, 6 RI#, 7 GND, 8 NC hidden, 9 DSR#, 10 DCD#, 11 CTS#, 12 CBUS4, 13 CBUS2, 14 CBUS3, 15 USBDP, 16 USBDM, 17 3V3OUT, 18 GND, 19 RESET#, 20 VCC, 21 GND, 22 CBUS1, 23 CBUS0, 24 NC, 25 AGND, 26 TEST, 27 OSCI, 28 OSCO

## G2RK-2
designator K?
Dual-Pole Dual-Throw Relay; PackageDescription: Relay; 8 Leads
footprint G2RK-2
pins: 1 COIL2, 2 NC2, 3 COM2, 4 NO2, 5 NO1, 6 COM1, 7 NC1, 8 COIL1

## G-RELAY
designator *

## GC9A01-1.28
designator LCD?, comment GC9A01 1.28 TFT LCD
footprint GC9A01-1.28
pins: 1 GND, 2 LED K, 3 LED A, 4 VDD, 5 GND, 6 GND, 7 D/C, 8 CS, 9 SCL, 10 SDA, 11 RST, 12 GND

## GLCD-128x64
designator GLCD?, comment 128x64
pins: 1 CS1, 2 CS2, 3 GND, 4 VCC, 5 VO, 6 RS, 7 R/W, 8 E, 9 D0, 10 D1, 11 D2, 12 D3, 13 D4, 14 D5, 15 D6, 16 D7, 17 RST, 18 Vee, 19 LED+, 20 LED-

## GLCD-128x64-SMALL
designator GLCD?, comment 128x64
footprint LCD 128x64-SMALL
pins: 1 GND, 2 VCC, 3 VO, 4 RS, 5 R/W, 6 E, 7 D0, 8 D1, 9 D2, 10 D3, 11 D4, 12 D5, 13 D6, 14 D7, 15 CS1, 16 CS2, 17 RST, 18 OUT, 19 BLA, 20 BLK

## GTL2003PW
designator *
pins: 1 GND, 2 SREF, 3 S1, 4 S2, 5 S3, 6 S4, 7 S5, 8 S6, 9 S7, 10 S8, 11 D8, 12 D7, 13 D6, 14 D5, 15 D4, 16 D3, 17 D2, 18 D1, 19 DREF, 20 GREF

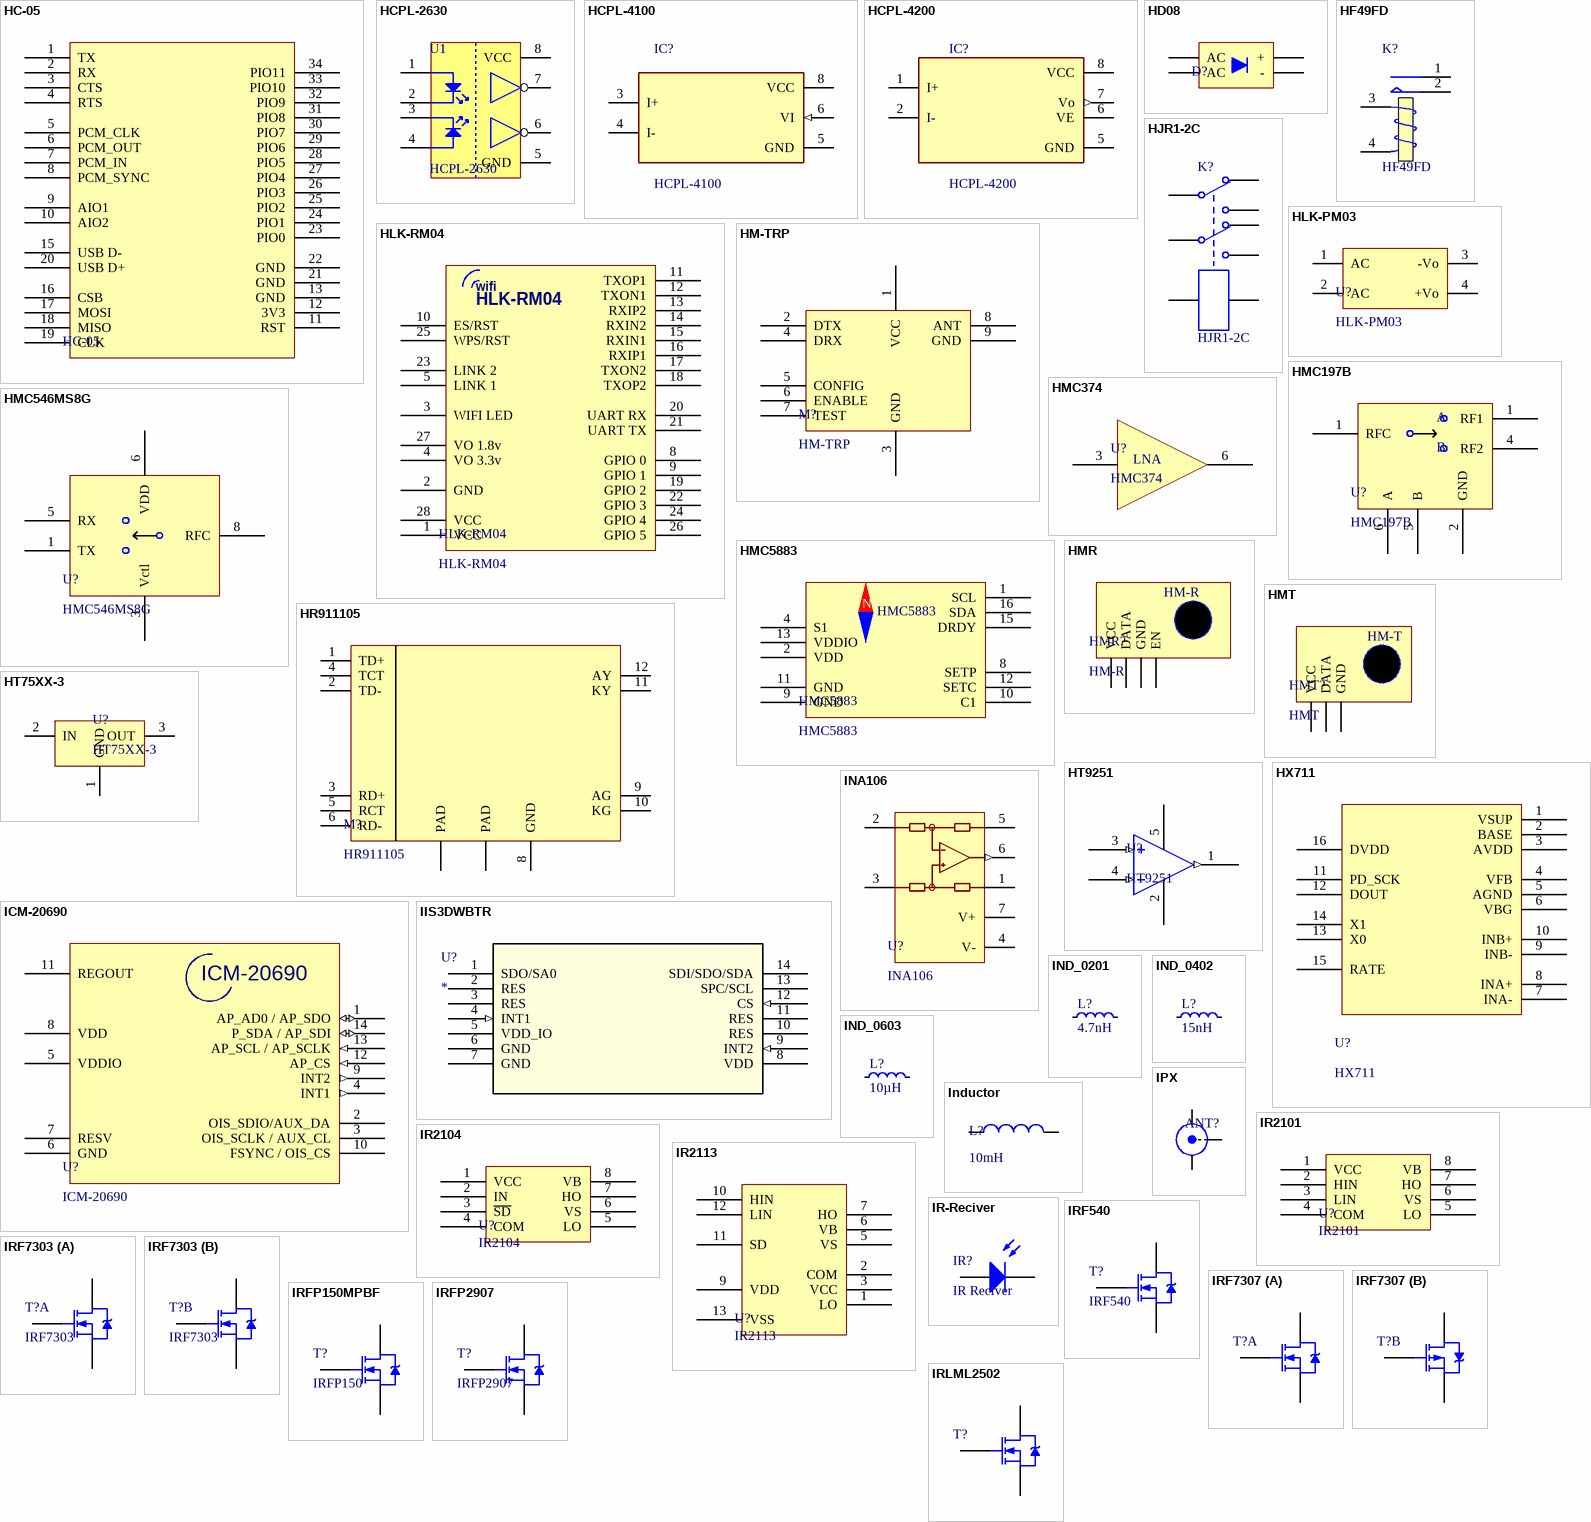
[diagram p6: symbols HC-05 to IRLML2502]

## HC-05
designator HC-05  (value not drawn)
footprint hc-05
pins: 1 TX, 2 RX, 3 CTS, 4 RTS, 5 PCM_CLK, 6 PCM_OUT, 7 PCM_IN, 8 PCM_SYNC, 9 AIO1, 10 AIO2, 11 RST, 12 3V3, 13 GND, 15 USB D-, 16 CSB, 17 MOSI, 18 MISO, 19 CLK, 20 USB D+, 21 GND, 22 GND, 23 PIO0, 24 PIO1, 25 PIO2, 26 PIO3, 27 PIO4, 28 PIO5, 29 PIO6, 30 PIO7, 31 PIO8, 32 PIO9, 33 PIO10, 34 PIO11

## HCPL-2630
designator U1
HIGH SPEED-10 MBit/s  LOGIC GATE OPTOCOUPLERS
footprint DIP-8
pins: 1 A1, 2 K1, 3 A2, 4 K2, 5 GND, 6 Vo, 7 Ve, 8 VCC

## HCPL-4100
designator IC?
<b>Isolation Amplifer</b><p> Source: http://www.avagotech.com/docs/AV02-0410EN; MF: {'manufacturer': u'Broadcom Limited'}; Package: None; Value: *; Price: None; MP: HCPL-4100; Availability: Unavailable
footprint DIP-8
pins: 3 I+ (power), 4 I- (power), 5 GND (power), 6 VI (in), 8 VCC (power)

## HCPL-4200
designator IC?
Optically Coupled 20 mA Current Loop Receiver; MF: {'manufacturer': u'Broadcom Limited'}; Package: None; Value: *; Price: None; MP: HCPL-4100; Availability: Unavailable
footprint DIP-8
pins: 1 I+ (power), 2 I- (power), 5 GND (power), 6 VE (power), 7 Vo (out), 8 VCC (power)

## HD08
designator D?  (value not drawn)
footprint HD08 (Footprint not found)
pins: 1 +, 2 -, 3 AC, 4 AC

## HF49FD
designator K?
MINIATURE POWER RELAY; Designer: Ali Hafizi; Company: E.P.I.L; Design_Date: 2011/10/31
footprint HF49FD (Footprint not found)
pins: 1 NC, 2 NO, 3 T1, 4 T2

## HJR1-2C
designator K?
Dual-Pole Dual-Throw Relay; PackageDescription: Relay; 8 Leads
footprint HJR1-2C
pins: 1, 4, 6, 8, 9, 11, 13, 16

## HLK-PM03
designator U?
Ultra-compact module power
footprint HLK-PM03
pins: 1 AC, 2 AC, 3 -Vo, 4 +Vo

## HLK-RM04
designator HLK-RM04
pins: 1 VCC (power) "5 Power input", 2 GND (power) "Power ground", 3 WIFI LED (power) "WLAN Activity LED", 4 VO 3.3v "3.3V Output (Suuport Atmost 300mA)", 5 LINK 1 "10/100 PHY Port #1 activity LED", 6 N/A hidden "Reserved", 7 N/A hidden "Reserved", 8 GPIO 0 "GPIO", 9 GPIO 1, 10 ES/RST "Exit transparent transmission mode/Restore factory value", 11 TXOP1 "Net gape 1 TX-P", 12 TXON1 "10/100 PHY Port #1 TXN", 13 RXIP2 "10/100 PHY Port #2 TXP", 14 RXIN2 "10/100 PHY Port #2 TXN", 15 RXIN1 "10/100 PHY Port #1 RXN", 16 RXIP1 "10/100 PHY Port #1 RXP", 17 TXON2 "10/100 PHY Port #2 OXN", 18 TXOP2 "10/100 PHY Port #2 OXP", 19 GPIO 2 "General GPIO Reserved", 20 UART RX "UART RXD.", 21 UART TX "UART TXD.", 22 GPIO 3 "General GPIO Reserved", 23 LINK 2 "10/100 PHY Port #2 activity LED", 24 GPIO 4 "General GPIO Reserved", 25 WPS/RST "WiFi Protected Setup /Restore factory value", 26 GPIO 5 "General GPIO Reserved", 27 VO 1.8v "1.8V Output (Suuport Atmost 300mA)", 28 VCC "Supply Voltage, 5V+/-10%"
text: wifi

## HM-TRP
designator M?
footprint HM-TRP (Footprint not found)
pins: 1 VCC, 2 DTX, 3 GND, 4 DRX, 5 CONFIG, 6 ENABLE, 7 TEST, 8 ANT, 9 GND

## HMC197B
designator U?
GaAs MMIC SPDT  SWITCH, DC- 3 GHz
footprint SOT-23-6 (Footprint not found)
pins: 1 RF1, 1 RFC, 2 GND, 4 RF2, 5 B, 6 A

## HMC374
designator U?
SMT PHEMT LOW NOISE  AMPLIFIER, 0.3 - 3.0 GHz
footprint SOT-23-6
pins: 2 GND hidden to GND, 3 IN, 6 GND hidden to GND, 6 OUT
text: LNA

## HMC546MS8G
designator U?
GaAs MMIC 20W FAILSAFE SWITCH
footprint SOT-8
pins: 1 TX, 2 GND hidden to GND, 3 Vctl, 5 RX, 6 VDD, 7 GND hidden to GND, 8 RFC, 9 GND hidden to GND

## HMC5883
designator HMC5883
Compass Sensor
footprint HMC5883
pins: 1 SCL "Serial Clock – I2C Master/Slave Clock", 2 VDD "Power Supply (2.16V to 3.6V)", 4 S1 "Tie to VDDIO", 8 SETP "Set/Reset Strap Positive – S/R Capacitor (C2) Connection", 9 GND "Supply Ground", 10 C1 "Reservoir Capacitor (C1) Connection", 11 GND "Supply Ground", 12 SETC "S/R Capacitor (C2) Connection – Driver Side", 13 VDDIO "IO Power Supply (1.71V to VDD)", 15 DRDY "Data Ready, Interrupt Pin. Internally pulled high. Optional connection. Low for 250 ?sec when data is placed in the data output registers.", 16 SDA "Serial Data – I2C Master/Slave Data"
text: N

## HMR
designator HMR?, comment HM-R
footprint HMR
pins: 1 VCC, 2 DATA, 3 GND, 4 EN

## HMT
designator HMT?
footprint HMT
pins: 1 VCC, 2 DATA, 3 GND
text: HM-T

## HR911105
designator M?
RJ45 JACK
footprint HR911105
pins: 1 TD+, 2 TD-, 3 RD+, 4 TCT, 5 RCT, 6 RD-, 7 NC hidden, 8 GND, 9 AG, 10 KG, 11 KY, 12 AY, MH1 PAD, MH2 PAD

## HT75XX-3
designator U?
100mA Low Power LDO
footprint sot-89
pins: 1 GND, 2 IN, 3 OUT

## HT9251
designator U?
footprint SOT-23-5
pins: 1 OUT (out), 2 VSS "NEGATIVE", 3 IN+ (in), 4 IN- (in), 5 VDD "POSITIVE"

## HX711
designator U?
24-Bit Analog-to-Digital Converter (ADC) for Weigh Scales
footprint SOIC-16N
pins: 1 VSUP, 2 BASE, 3 AVDD, 4 VFB, 5 AGND, 6 VBG, 7 INA-, 8 INA+, 9 INB-, 10 INB+, 11 PD_SCK "Ground: Ground path for negative PWM speaker drive.", 12 DOUT "Ground: Ground path for positive PWM speaker drive.", 13 X0 "Analog Ground: Ground path for analog circuitry.", 14 X1 "Digital Ground: Ground path for digital circuitry", 15 RATE "Power Supply for PWM Speaker Driver: Power for PWM speaker drive.", 16 DVDD "Analog Power Supply. Power supply for analog circuitry."

## ICM-20690
designator U?
footprint LGA-14-2.5X3
pins: 1 AP_AD0 / AP_SDO (io), 2 OIS_SDIO/AUX_DA "Charge pump capacitor connection", 3 OIS_SCLK / AUX_CL, 4 INT1 (out), 5 VDDIO, 6 GND, 7 RESV, 8 VDD, 9 INT2 (out), 10 FSYNC / OIS_CS, 11 REGOUT, 12 AP_CS (in), 13 AP_SCL / AP_SCLK (in), 14 P_SDA / AP_SDI (io)

## IIS3DWBTR
designator U?
No Description Available; Mfr_Name: STMicroelectronics; RefDes: RefDes; Type: Type
footprint LGA-14L_2P5X3X0P83_STM
pins: 1 SDO/SA0, 2 RES (power), 3 RES (power), 4 INT1 (in), 5 VDD_IO (power), 6 GND (power), 7 GND (power), 8 VDD (power), 9 INT2 (in), 10 RES (power), 11 RES (power), 12 CS (in), 13 SPC/SCL, 14 SDI/SDO/SDA

## INA106
designator U?
Precision Unity Gain Diff. Amplifier
footprint SOIC-8N
pins: 1 REF, 2 -IN, 3 +IN, 4 V- (power), 5 SENSE, 6 OUT (out), 7 V+ (power)

## IND_0201
designator L?, comment 4.7nH
High frequency chip inductor ±5%; Part Number: L0201-4n7; LatestRevisionDate: 2013-04-10; Pin Count: 2; Publisher: Nordic Semiconductor; Published: 2013-04-10; Value: 4.7nH; Footprint Doc: 0201
footprint INDC0603X03L_C
pins: 1, 2

## IND_0402
designator L?, comment 15nH
High frequency chip inductor ±10%; Part Number: L0402-15n; LatestRevisionDate: 2012-09-19; Pin Count: 2; Publisher: Nordic Semiconductor; Published: 2010-07-12; Value: 15nH; Footprint Doc: 0402
footprint INDC1005X04L
pins: 1, 2

## IND_0603
designator L?, comment 10µH
Chip inductor, IDC,min = 50 mA, ±20%; Part Number: L0603-10µ-TDK; LatestRevisionDate: 2012-09-19; Pin Count: 2; Publisher: Nordic Semiconductor; Published: 2019-05-06; Value: 10µH; Footprint Doc: 0603
footprint INDC1608X06L
pins: 1, 2

## Inductor
designator L?, comment 10mH
Ferrite; Value: 10mH
footprint i0805
pins: 1, 2

## IPX
designator ANT?, comment IPX CONN  (value not drawn)
footprint IPX
pins: 1 SIG, 2 GND, 3 GND

## IR2101
designator U?
HIGH AND LOW SIDE DRIVER
footprint SOIC-8N
pins: 1 VCC, 2 HIN, 3 LIN, 4 COM, 5 LO, 6 VS, 7 HO, 8 VB

## IR2104
designator U?
HIGH AND LOW SIDE DRIVER
footprint SOIC-8N
pins: 1 VCC, 2 IN, 3 ~{SD}, 4 COM, 5 LO, 6 VS, 7 HO, 8 VB

## IR2113
designator U?
HIGH AND LOW SIDE DRIVER
footprint SOIC-16W
pins: 1 LO, 2 COM, 3 VCC, 5 VS, 6 VB, 7 HO, 9 VDD, 10 HIN, 11 SD, 12 LIN, 13 VSS

## IR-Reciver
designator IR?, comment IR Reciver
footprint LED 3mm
pins: 1 A, 2 K

## IRF540
designator T?
N-Channel MOSFET
footprint TO-220 Right
footprint TO-220
pins: 1 G, 2 D, 3 S

## IRF7303
designator T?
footprint SOIC-8N
part A pins: 1 S, 2 G, 7 D, 8 D
part B pins: 3 S, 4 G, 5 D, 6 D

## IRF7307
designator T?  (value not drawn)
footprint SOIC-8N
part A pins: 1 S, 2 G, 7 D, 8 D
part B pins: 3 S, 4 G, 5 D, 6 D

## IRFP150MPBF
designator T?, comment IRFP150
HEXFET
footprint TO-247 (SIP with Mounting Hole; 3 Leads; Body 20 x 15.6 x 5 mm (typ); Pitch 5.45 mm)
pins: 1 G, 2 D, 3 S

## IRFP2907
designator T?
N-Channel MOSFET
footprint TO-247 (SIP with Mounting Hole; 3 Leads; Body 20 x 15.6 x 5 mm (typ); Pitch 5.45 mm)
footprint TO-247H (SIP with Mounting Hole; 3 Leads; Body 20 x 15.6 x 5 mm (typ); Pitch 5.45 mm)
pins: 1 G, 2 D, 3 S

## IRLML2502
designator T?  (value not drawn)
POWER N-ch MOSFET
footprint SOT-23
pins: 1 G, 2 S, 3 D

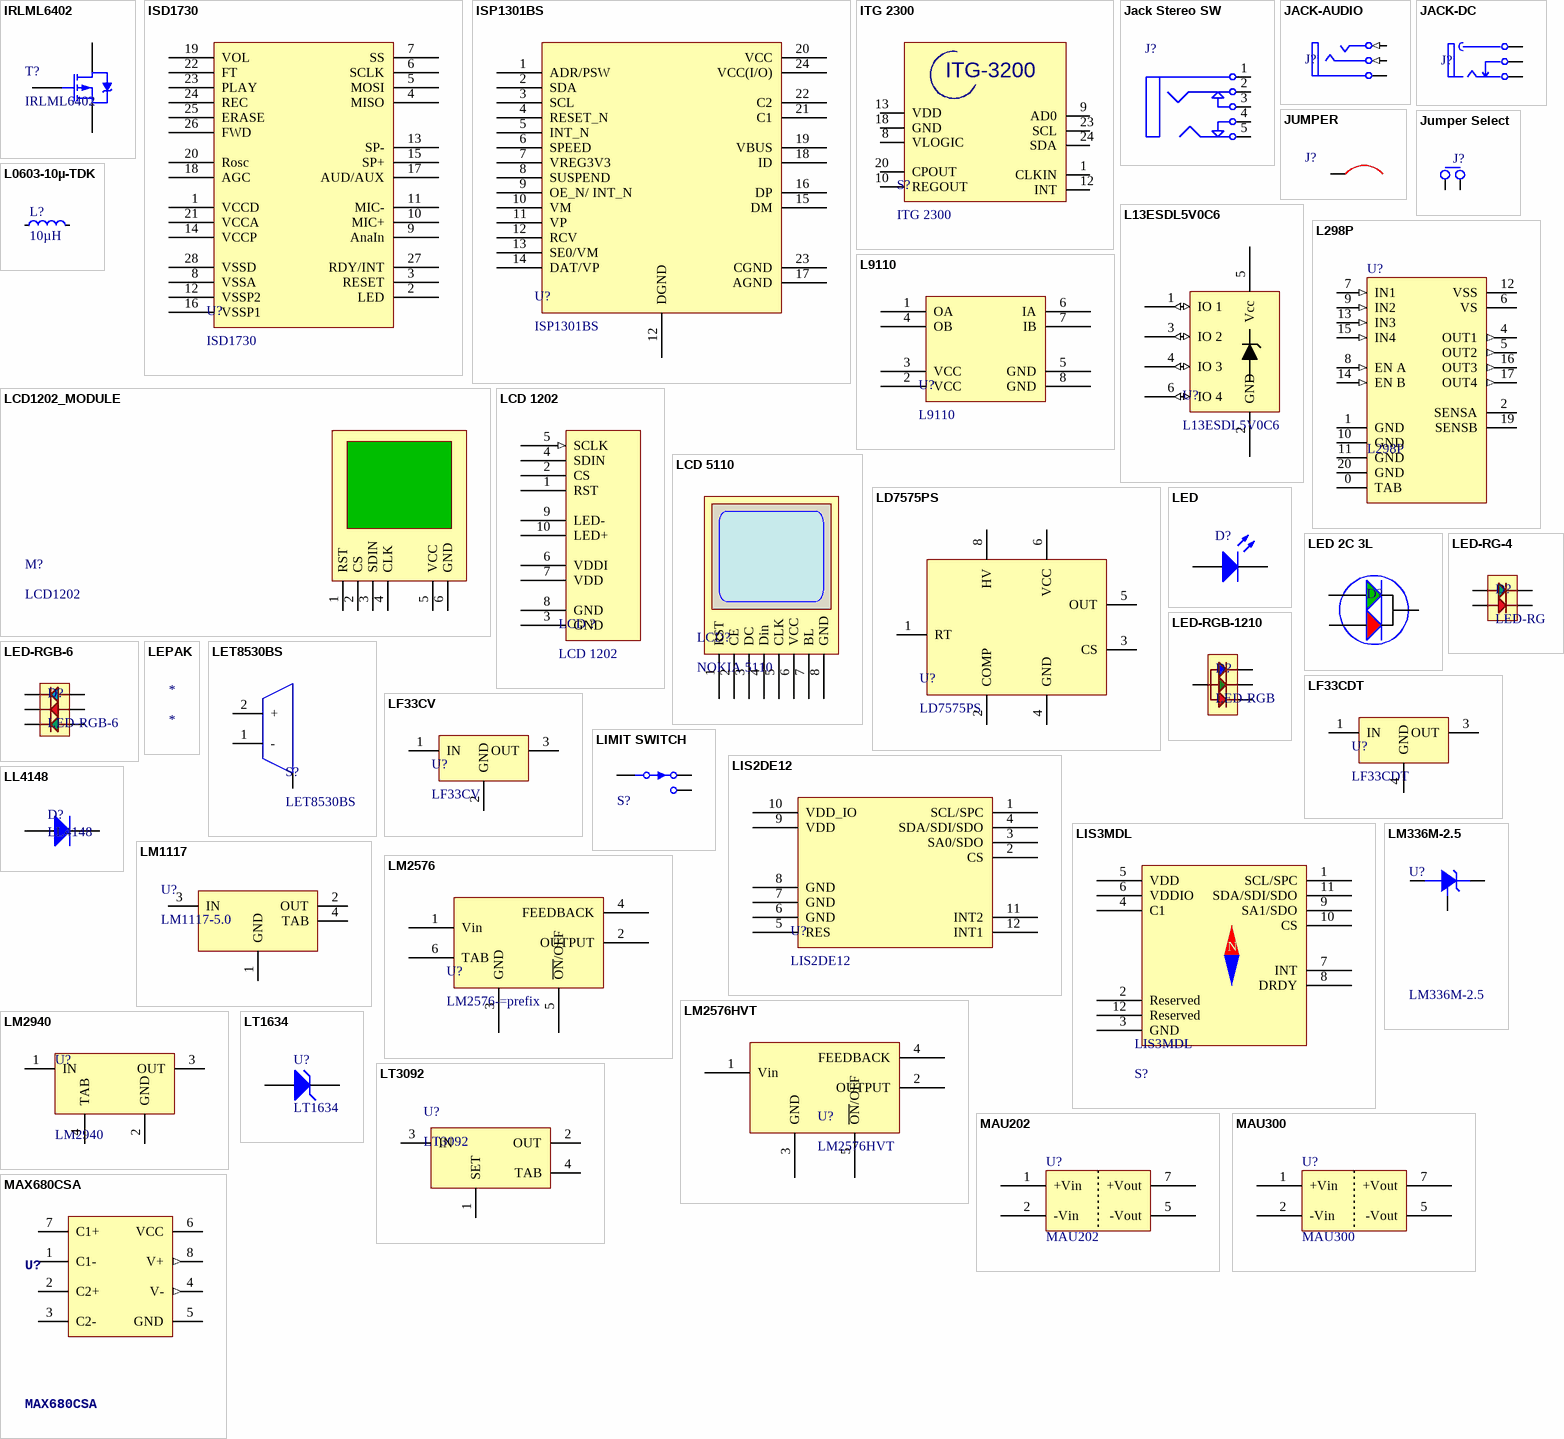
[diagram p7: symbols IRLML6402 to MAX680CSA]

## IRLML6402
designator T?
footprint SOT-23
pins: 1 G, 2 S, 3 D

## ISD1730
designator U?
Single-Chip  Voice Record & Playback Devices
footprint SOIC-28N
pins: 1 VCCD "Digital Power Supply: Power supply for digital circuitry.", 2 LED "LED: An LED output", 3 RESET "RESET: When active, the device enters into a known state.", 4 MISO, 5 MOSI, 6 SCLK, 7 SS, 8 VSSA "Analog Ground: Ground path for analog circuitry.", 9 AnaIn, 10 MIC+, 11 MIC-, 12 VSSP2 "Ground: Ground path for negative PWM speaker drive.", 13 SP-, 14 VCCP "Power Supply for PWM Speaker Driver: Power for PWM speaker drive.", 15 SP+, 16 VSSP1 "Ground: Ground path for positive PWM speaker drive.", 17 AUD/AUX, 18 AGC, 19 VOL "LED: An LED output", 20 Rosc "RESET: When active, the device enters into a known state.", 21 VCCA "Analog Power Supply. Power supply for analog circuitry.", 22 FT, 23 PLAY, 24 REC, 25 ERASE "LED: An LED output", 26 FWD "RESET: When active, the device enters into a known state.", 27 RDY/INT, 28 VSSD "Digital Ground: Ground path for digital circuitry"

## ISP1301BS
designator U?
Universal Serial Bus On-The-Go transceiver
footprint QFN-24-PAD
pins: 1 ADR/PSW, 2 SDA, 3 SCL, 4 RESET_N, 5 INT_N, 6 SPEED, 7 VREG3V3, 8 SUSPEND, 9 OE_N/ INT_N, 10 VM, 11 VP, 12 RCV, 12 DGND, 13 SE0/VM, 14 DAT/VP, 15 DM, 16 DP, 17 AGND, 18 ID, 19 VBUS, 20 VCC, 21 C1, 22 C2, 23 CGND, 24 VCC(I/O)